# Altium schematic symbol library 6.Chips.SchLib: 209 symbols (part 2 of 3)
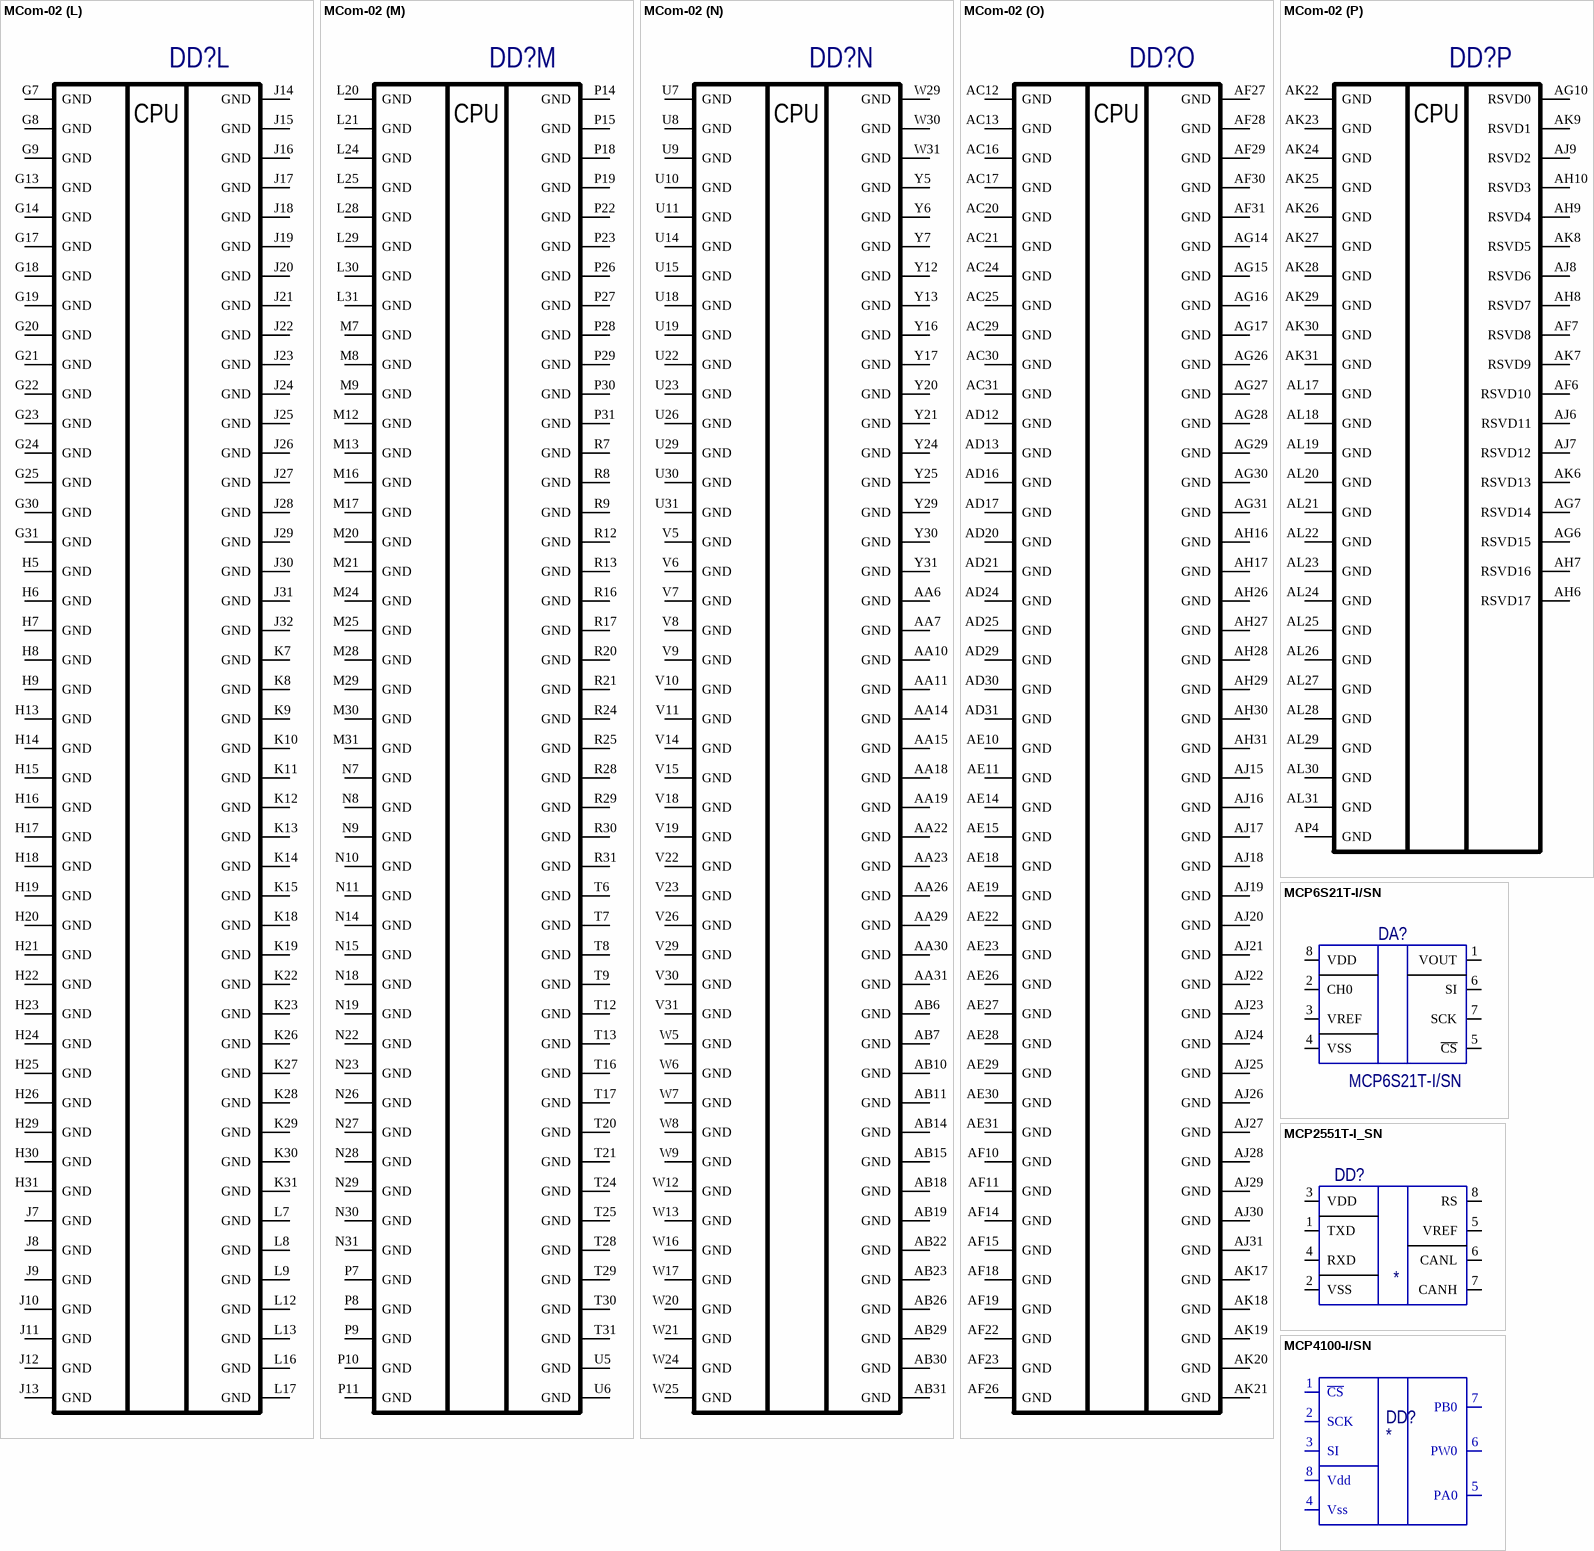
[diagram p20: symbols MCom-02 to MCP4100-I/SN]

## MCom-02
designator DD?, comment MCom-02.1  (value not drawn)
Процессор; Note: Elvees; _Type: IC; _Value: MCom-02.1; Manufacturer: Elvees; ComponentLink1Description: Datasheet; _PartNumber: MCom-02.1
footprint BGA1296(36x36pin_19x19mm)
part A pins: AA32 DDR0_ATO "Byte Low Enable", AA33 DDR0_ODT1 "Byte Low Enable", AA34 DDR0_ODT0 "Byte Low Enable", AA35 DDR0_DTO1 "Byte Low Enable", AA36 DDR0_DTO0 "Byte Low Enable", AB32 DDR0_AD2, AB33 DDR0_RASn "Byte Low Enable", AB34 DDR0_AD10 "Output Enables", AB35 DDR0_WEn "Byte Low Enable", AB36 DDR0_BA2 "Byte Low Enable", AC32 DDR0_AD11 "Write Enable", AC33 DDR0_AD13 "Byte Low Enable", AC34 DDR0_AD12 "Byte High Enable", AC35 DDR0_AD3, AC36 DDR0_AD1, AD32 DDR0_AD14 "Byte Low Enable", AD33 DDR0_AD15 "Byte Low Enable", AD34 DDR0_VREF "Byte Low Enable", AD35 DDR0_CKn "Byte Low Enable", AD36 DDR0_CK "Byte Low Enable", AE32 DDR0_AD5, AE33 DDR0_AD9, AE34 DDR0_AD6, AE35 DDR0_AD7, AE36 DDR0_AD8, AF32 DDR0_CASn "Byte Low Enable", AF33 DDR0_BA1 "Byte Low Enable", AF34 DDR0_AD0, AF35 DDR0_AD4, AF36 DDR0_BA0 "Byte Low Enable", AG32 DDR0_CKE0 "Byte Low Enable", AG33 DDR0_RST "Byte Low Enable", AG34 DDR0_CKE1 "Byte Low Enable", AG35 DDR0_CSn0 "Byte Low Enable", AG36 DDR0_CSn1 "Byte Low Enable", AH32 DDR0_VREF "Byte Low Enable", AH33 DDR0_DQ19, AH34 DDR0_DQ17, AH35 DDR0_DQ21, AH36 DDR0_DQ23, AJ32 DDR0_MDM2 "Byte Low Enable", AJ33 DDR0_DQ16, AJ34 DDR0_DQ18, AJ35 DDR0_DQ22, AJ36 DDR0_DQ20, AK32 DDR0_MDM3 "Byte Low Enable", AK33 DDR0_DQ29, AK34 DDR0_DQ31, AK35 DDR0_DQ27, AK36 DDR0_DQ25, AL33 DDR0_DQ28, AL34 DDR0_DQ30, AL35 DDR0_DQ26, AL36 DDR0_DQ24, AM33 DDR0_DQS3, AM34 DDR0_nDQS3, AM35 DDR0_DQS2, AM36 DDR0_nDQS2, T33 DDR0_DQS1, T34 DDR0_nDQS1, T35 DDR0_DQS0, T36 DDR0_nDQS0, U33 DDR0_DQ3, U34 DDR0_DQ1, U35 DDR0_DQ5, U36 DDR0_DQ7, V32 DDR0_MDM0 "Byte Low Enable", V33 DDR0_DQ0, V34 DDR0_DQ2, V35 DDR0_DQ6, V36 DDR0_DQ4, W32 DDR0_MDM1 "Byte Low Enable", W33 DDR0_DQ13, W34 DDR0_DQ15, W35 DDR0_DQ11, W36 DDR0_DQ9, Y32 DDR0_PZQ "Byte Low Enable", Y33 DDR0_DQ12, Y34 DDR0_DQ14, Y35 DDR0_DQ10, Y36 DDR0_DQ8
part B pins: AM17 DDR1_MDM3 "Byte Low Enable", AM18 DDR1_MDM2 "Byte Low Enable", AM19 DDR1_VREF "Byte Low Enable", AM20 DDR1_CKE0 "Byte Low Enable", AM21 DDR1_CASn "Byte Low Enable", AM22 DDR1_AD5, AM23 DDR1_AD14 "Byte Low Enable", AM24 DDR1_AD11 "Write Enable", AM25 DDR1_AD2, AM26 DDR1_ATO "Byte Low Enable", AM27 DDR1_PZQ "Byte Low Enable", AM28 DDR1_MDM1 "Byte Low Enable", AM29 DDR1_MDM0 "Byte Low Enable", AN15 DDR1_DQS3, AN16 DDR1_DQ28, AN17 DDR1_DQ29, AN18 DDR1_DQ16, AN19 DDR1_DQ19, AN20 DDR1_RST "Byte Low Enable", AN21 DDR1_BA1 "Byte Low Enable", AN22 DDR1_AD9, AN23 DDR1_AD15 "Byte Low Enable", AN24 DDR1_AD13 "Byte Low Enable", AN25 DDR1_RASn "Byte Low Enable", AN26 DDR1_ODT1 "Byte Low Enable", AN27 DDR1_DQ12, AN28 DDR1_DQ13, AN29 DDR1_DQ0, AN30 DDR1_DQ3, AN31 DDR1_DQS1, AP15 DDR1_nDQS3, AP16 DDR1_DQ30, AP17 DDR1_DQ31, AP18 DDR1_DQ18, AP19 DDR1_DQ17, AP20 DDR1_CKE1 "Byte Low Enable", AP21 DDR1_AD0, AP22 DDR1_AD6, AP23 DDR1_VREF "Byte Low Enable", AP24 DDR1_AD12 "Byte High Enable", AP25 DDR1_AD10 "Output Enables", AP26 DDR1_ODT0 "Byte Low Enable", AP27 DDR1_DQ14, AP28 DDR1_DQ15, AP29 DDR1_DQ2, AP30 DDR1_DQ1, AP31 DDR1_nDQS1, AR15 DDR1_DQS2, AR16 DDR1_DQ26, AR17 DDR1_DQ27, AR18 DDR1_DQ22, AR19 DDR1_DQ21, AR20 DDR1_CSn0 "Byte Low Enable", AR21 DDR1_AD4, AR22 DDR1_AD7, AR23 DDR1_CKn "Byte Low Enable", AR24 DDR1_AD3, AR25 DDR1_WEn "Byte Low Enable", AR26 DDR1_DTO1 "Byte Low Enable", AR27 DDR1_DQ10, AR28 DDR1_DQ11, AR29 DDR1_DQ6, AR30 DDR1_DQ5, AR31 DDR1_DQS0, AT15 DDR1_nDQS2, AT16 DDR1_DQ24, AT17 DDR1_DQ25, AT18 DDR1_DQ20, AT19 DDR1_DQ23, AT20 DDR1_CSn1 "Byte Low Enable", AT21 DDR1_BA0 "Byte Low Enable", AT22 DDR1_AD8, AT23 DDR1_CK "Byte Low Enable", AT24 DDR1_AD1, AT25 DDR1_BA2 "Byte Low Enable", AT26 DDR1_DTO0 "Byte Low Enable", AT27 DDR1_DQ8, AT28 DDR1_DQ9, AT29 DDR1_DQ4, AT30 DDR1_DQ7, AT31 DDR1_nDQS0
part C pins: AA27 D0VDD1, AA28 D0VDD1, AB27 D0VDD1, AB28 D0VDD1, AC27 D0VDD0, AC28 D0VDD0, AD27 D0VDD0, AD28 D0VDD0, AG18 D1VDD1, AG19 D1VDD1, AG20 D1VDD0, AG21 D1VDD0, AG22 D1VDD1, AG23 D1VDD1, AG24 D1VDD1, AG25 D1VDD1, AH18 D1VDD1, AH19 D1VDD1, AH20 D1VDD0, AH21 D1VDD0, AH22 D1VDD1, AH23 D1VDD1, AH24 D1VDD1, AH25 D1VDD1, AL32 D0GND, AM13 D1GND, AM14 D1GND, AM15 D1GND, AM16 D1GND, AM30 D1GND, AM31 D1GND, AM32 D1GND, AN13 D1GND, AN14 D1GND, AN32 D1GND, AN33 D0GND, AN34 D0GND, AN35 D0GND, AN36 D0GND, AP13 D1GND, AP14 D1GND, AP32 D1GND, AP33 D0GND, AP34 D0GND, AP35 D0GND, AP36 D0GND, AR14 D1GND, AR32 D1GND, AR33 D1GND, AR34 D1GND, AR35 D1GND, AR36 D1GND, AT14 D1GND, AT32 D1GND, AT33 D1GND, AT34 D1GND, AT35 D1GND, AT36 D1GND, P32 D0GND, P33 D0GND, P34 D0GND, P35 D0GND, P36 D0GND, R32 D0GND, R33 D0GND, R34 D0GND, R35 D0GND, R36 D0GND, T32 D0GND, U27 D0VDD1, U28 D0VDD1, U32 D0GND, V27 D0VDD1, V28 D0VDD1, W27 D0VDD1, W28 D0VDD1, Y27 D0VDD1, Y28 D0VDD1
part D pins: AA1 GMII_TXEN, AA2 GMII_COL, AA3 GMII_MDC, AA4 GMII_TXER, AA5 GMII_CRS, AB1 GMII_RXER, AB2 GMII_TXCLK, AB3 GMII_MD, AB4 GMII_RXDV, AB5 GMII_RXCLK, AC1 SD1_DA3, AC2 SD1_DA2, AC3 SD1_DA1, AC4 SD1_DA0, AC5 VDD_SD1, AD1 SD1_DA7, AD2 SD1_DA6, AD3 SD1_DA5, AD4 SD1_DA4, AD5 GND_SD1, AE1 SD1_18EN, AE2 SD1_CMD, AE3 SD1_CLK, AE4 SD1_DET, AE5 GND_SD1, AF1 SD0_DA3, AF2 SD0_DA2, AF3 SD0_DA1, AF4 SD0_DA0, AF5 VDD_SD0, AG1 SD0_DA7, AG2 SD0_DA6, AG3 SD0_DA5, AG4 SD0_DA4, AG5 GND_SD0, AH1 SD0_18EN, AH2 SD0_CMD, AH3 SD0_CLK, AH4 SD0_DET, AH5 GND_SD0, AJ1 ND_CSN0, AJ2 ND_CSN1, AJ3 ND_DQS, AJ4 ND_WRE, AJ5 ND_RBN0, AK1 ND_CLE, AK2 ND_ALE, AK3 ND_DA8, AK4 ND_DA9, AK5 ND_RBN1, AL1 ND_DA0, AL2 ND_DA1, AL3 ND_DA10, AL4 ND_DA11, AM1 ND_DA2, AM2 ND_DA3, AM3 ND_DA12, AM4 ND_DA13, AN1 ND_DA4, AN2 ND_DA5, AN3 ND_DA14, AN4 ND_DA15, AN5 ND_RDE, AP1 ND_DA6, AP2 ND_DA7, U1 GMII_TXD6, U2 GMII_TXD7, U3 GMII_RXD6, U4 GMII_RXD7, V1 GMII_TXD4, V2 GMII_TXD5, V3 GMII_RXD4, V4 GMII_RXD5, W1 GMII_TXD2, W2 GMII_TXD3, W3 GMII_RXD2, W4 GMII_RXD3, Y1 GMII_TXD0, Y2 GMII_TXD1, Y3 GMII_RXD0, Y4 GMII_RXD1
part E pins: AJ11 OTG_VDD33, AJ12 OTG_VDD33, AJ13 OTG_ID, AK11 OTG_VDD33, AK12 OTG_VDD33, AK13 OTG_VBUS, AL11 OTG_VSSAC, AL12 OTG_VSSA, AM11 OTG_VDD25, AM12 OTG_VSSA, AN12 OTG_DRV, AP12 OTG_TXRT, AR12 OTG_DM, AT12 OTG_DP, E1 SMC_D6, E2 SMC_D7, E3 SMC_D14, E4 SMC_D15, F1 SMC_D4, F2 SMC_D5, F3 SMC_D12, F4 SMC_D13, G1 SMC_D2, G2 SMC_D3, G3 SMC_D10, G4 SMC_D11, H1 SMC_D0, H2 SMC_D1, H3 SMC_D8, H4 SMC_D9, J1 SMC_AD14, J2 SMC_AD15, J3 SMC_AD22, J4 SMC_AD23, J5 VDDPST, J6 VDDPST, K1 SMC_AD12, K2 SMC_AD13, K3 SMC_AD20, K4 SMC_AD21, K5 VDDPST, K6 VDDPST, L1 SMC_AD10, L2 SMC_AD11, L3 SMC_AD18, L4 SMC_AD19, L5 VDDPST, L6 VDDPST, M1 SMC_AD8, M2 SMC_AD9, M3 SMC_AD16, M4 SMC_AD17, M5 SMC_WAIT, M6 VDDPST, N1 SMC_AD6, N2 SMC_AD7, N3 SMC_BLS0, N4 SMC_BLS1, N5 SMC_ADVN, N6 VDDPST, P1 SMC_AD4, P2 SMC_AD5, P3 SMC_BAA, P4 SMC_CRE, P5 SMC_WEN, P6 VDDPST, R1 SMC_AD2, R2 SMC_AD3, R3 SMC_CSN0, R4 SMC_CSN1, R5 SMC_OEN, R6 VDDPST, T1 SMC_AD0, T2 SMC_AD1, T3 SMC_CLK0, T4 SMC_CLK1, T5 SMC_FBCLK
part F pins: A5 UART0_IN/GA18, A6 UART0_RTS/GA21, A8 UART3_IN, A9 I2S_SDO0/GD9, A11 I2C2_SCL/GD25, A24 SW1_DINP, A25 SW1_SINP, A26 SW1_SOUTP, A27 SW1_DOUTP, B5 UART0_OUT/GA19, B6 UART0_CTS/GA20, B8 UART3_OUT, B9 I2S_SDI/GD8, B11 I2C2_SDA/GD24, B24 SW1_DINN, B25 SW1_SINN, B26 SW1_SOUTN, B27 SW1_DOUTN, C8 UART1_IN/GD0, C9 I2S_CLKO/GD7, C11 I2C1_SCL/GD23, C24 SW0_DOUTP, C25 SW0_SOUTP, C26 SW0_SINP, C27 SW0_DINP, D8 UART1_OUT/GD1, D9 TIM1_TGL/GD6, D10 I2S_CLK/GD14, D11 I2C1_SDA/GD22, D24 SW0_DOUTN, D25 SW0_SOUTN, D26 SW0_SINN, D27 SW0_DINN, E7 TIM2_TGL/GA31, E9 UART2_IN/GD4, E10 I2S_WS/GD13, E20 SW0_VDD25, E21 SW0_VSS25, E22 SW0_VDD11, E23 SW0_VSS11, E24 SW1_VDD25, E25 SW1_VSS25, E26 SW1_VDD11, E27 SW1_VSS11, F9 UART2_OUT/GD5, F10 I2S_SDO1/GD10, F20 SW0_VDD25, F21 SW0_VSS25, F22 SW0_VDD11, F23 SW0_VSS11, F24 SW1_VDD25, F25 SW1_VSS25, F26 SW1_VDD11, F27 SW1_VSS11, G10 I2C0_SDA/GA29, G11 UART1_CTS/GD2, G12 I2S_SDO2/GD11, H10 I2C0_SCL/GA30, H11 UART1_RTS/GD3, H12 I2S_SDO3/GD12, K32 MFB1_DA2, K33 MFB1_DA0, K34 MFB1_ACK, K35 MFB1_DA6, K36 MFB1_DA4, L32 MFB1_DA3, L33 MFB1_DA1, L34 MFB1_CLK, L35 MFB1_DA7, L36 MFB1_DA5, M32 MFB0_DA2, M33 MFB0_DA0, M34 MFB0_ACK, M35 MFB0_DA6, M36 MFB0_DA4, N32 MFB0_DA3, N33 MFB0_DA1, N34 MFB0_CLK, N35 MFB0_DA7, N36 MFB0_DA5
part G pins: A1 TRACE_D0/GA0, A2 TRACE_D2/GA2, A3 TRACE_D4/GA4, A4 TRACE_D6/GA6, A7 SPI1_TXD/GA23, A10 SPI0_RXD/GD17, AJ10 TESTEN, AK10 TRST, AK16 RTC_WAKEUP, AL5 XTO_24M, AL10 TESTCLK, AL16 RTC_ISO, AM5 XTI_24M, AM10 TCK, AN6 TMS, AP3 efuse_VDDA, AP5 NSYS_OFF, AP6 TDI, AR1 WIRQ1, AR2 BOOT2, AR3 BOOT0, AR4 NRST_PON, AR5 NVMODE0, AR6 TDO, AR7 JMODE1, AR13 XT0_32K, AT1 WIRQ0, AT2 BOOT1, AT3 NRST_WRM, AT4 NVMODE1, AT5 JMODE0, AT6 CLKOUT, AT7 NBSRST, AT13 XTI_32K, B1 TRACE_D1/GA1, B2 TRACE_D3/GA3, B3 TRACE_D5/GA5, B4 TRACE_D7/GA7, B7 SPI1_RXD/GA24, B10 SPI0_TXD/GD16, C1 TRACE_D8/GA8, C2 TRACE_D10/GA10, C3 TRACE_D12/GA12, C4 TRACE_D14/GA14, C5 TRACE_TCL/GA16, C6 SPI1_CLK/GA22, C7 SPI1_SSN0/GA25, C10 SPI0_CLK/GD15, C12 PWM_TU0/GD30, C13 GPS_I0, C14 GPS_Q0, C15 GLN1_I0, C16 GLN1_Q0, D1 TRACE_D9/GA9, D2 TRACE_D11/GA11, D3 TRACE_D13/GA13, D4 TRACE_D15/GA15, D5 TRACE_CLK/GA17, D7 SPI1_SSN1/GA26, D12 PWM_TU1/GD31, D13 MCC_PPS, D14 GPS_I1, D15 GPS_Q1, D16 GLN1_I1, E8 SPI1_SSN2/GA27, E11 SPI0_SSN3/GD21, E12 PWM_B0/GD28, E13 SPI0_SSN1/GD19, E14 PWM_A0/GD26, E17 GLN2_I0, E18 GLN2_Q0, E19 MCC_CLKIN, F8 SPI1_SSN3/GA28, F11 SPI0_SSN2/GD20, F12 PWM_B1/GD29, F13 SPI0_SSN0/GD18, F14 PWM_A1/GD27, F17 GLN1_Q1, F18 GLN2_I1, F19 GLN2_Q1
part H pins: A12 VN_VDI0/GC0, A13 VN_VDI2/GC2, A14 VN_VDI4/GC4, A15 VN_VDI6/GC6, A16 VN_VDI8/GC8, A17 VN_VDI10/GC10, A18 VN_VDI12/GC12, A19 VN_VDI14/GC14, A20 VN_FSYNC0, A21 VN_RSTO0/GC30, A23 VN_CLKO0, A28 VP_VCLK, A29 VP_VDO2, A30 VP_VDO7, A31 VP_VDO11, A32 VP_VDO15, A33 VP_VDO17, A34 VP_VDO19, A35 VP_VDO21, A36 VP_VDO23, B12 VN_VDI1/GC1, B13 VN_VDI3/GC3, B14 VN_VDI5/GC5, B15 VN_VDI7/GC7, B16 VN_VDI9/GC9, B17 VN_VDI11/GC11, B18 VN_VDI13/GC13, B19 VN_VDI15/GC15, B20 VN_FSYNC1, B21 VN_RSTO1/GC31, B23 VN_CLKO1, B28 VP_VSYNC, B29 VP_VDO3, B30 VP_VDO6, B31 VP_VDO10, B32 VP_VDO14, B33 VP_VDO16, B34 VP_VDO18, B35 VP_VDO20, B36 VP_VDO22, C17 VN_VDI16/GC16, C18 VN_VDI18/GC18, C19 VN_VDI20/GC20, C20 VN_VDI22/GC22, C21 VN_VDI24/GC24, C22 VN_VDI26/GC26, C23 VN_VDI28/GC28, C28 VP_HSYNC, C29 VP_VDO0, C30 VP_VDO4, C31 VP_VDO9, C32 VP_VDO13, C33 DSI_DN0, C34 DSI_DP0, C35 CSI_DN0, C36 CSI_DP0, D17 VN_VDI17/GC17, D18 VN_VDI19/GC19, D19 VN_VDI21/GC21, D20 VN_VDI23/GC23, D21 VN_VDI25/GC25, D22 VN_VDI27/GC27, D23 VN_VDI29/GC29, D28 VP_VDEN, D29 VP_VDO1, D30 VP_VDO5, D31 VP_VDO8, D32 VP_VDO12, D33 DSI_DN1, D34 DSI_DP1, D35 CSI_DN1, D36 CSI_DP1, E33 DSI_DN2, E34 DSI_DP2, E35 CSI_DN2, E36 CSI_DP2, F33 DSI_DN3, F34 DSI_DP3, F35 CSI_DN3, F36 CSI_DP3, G33 DSI_CLKP, G34 DSI_CLKN, G35 CSI_CLKP, G36 CSI_CLKN
part I pins: AA8 VDD_PLL2, AA9 GND_PLL2, AB8 VDD_PLL3, AB9 GND_PLL3, AC6 ALIVE_VDDPST, AC7 ALIVE_VDDPST, AC8 VDD_PLL4, AC9 GND_PLL4, AD6 ALIVE_VDD, AD7 ALIVE_VDD, AD8 VDD_PLL5, AD9 GND_PLL5, AE6 ALIVE_VDD, AE7 ALIVE_VDD, AE8 VDD_PLL6, AE9 GND_PLL6, AF8 VDD_PLL7, AF9 GND_PLL7, AG8 VDD_PLL8, AG9 GND_PLL8, AJ14 RTC_VDDPST, AK14 RTC_VDDPST, AK15 RTC_VDD, AL6 DFTRAMBP, AL7 DFTWINTEST, AL8 DFTWEXTEST, AL9 TESTMODE_PLL, AL13 RTC_GNDAC, AL14 RTC_VDDAC, AL15 RTC_VDD, AM6 DFTCPURSTDIS, AM7 DFTCOMPBP, AM8 DFTATEATCLKVSOC, AM9 TESTSE, AN7 DFTCLKBP, AN8 DFTMAXCOMPMD, AN9 DFTWRPCLK, AN10 TESTSI_PLL, AN11 TESTSE_PLL, AP7 DFTRSTDIS, AP8 DFTATSPEEDEN, AP9 DFTSCANMD, AP10 TESTSO_PLL, AP11 TESTRST, AR8 DFTATECLK, AR9 DFTATEATCLK, AR10 DFTSE, AR11 TESTMODE_SC, AT8 DFTATEPCLKVSOC, AT9 DFTWSE, AT10 DFTTESTMD, AT11 TESTMODE, E30 DSI_GND, E31 DSI_GND, E32 DSI_VDD, F30 DSI_GND, F31 DSI_GND, F32 DSI_VDD, G32 DSI_VDD, H32 DSI_VDD, H33 CSI_GND, H34 CSI_GND, H35 CSI_VDD, H36 CSI_VDD, J33 CSI_GND, J34 CSI_GND, J35 CSI_VDD, J36 CSI_VDD, Y8 VDD_PLL1, Y9 GND_PLL1
part J pins: AG11 VDDPST, AG12 VDDPST, AH11 VDDPST, AH12 VDDPST, AH13 VDDPST, AH14 VDDPST, AH15 VDDPST, E15 VDDPST, E16 VDDPST, E28 VDDPST, E29 VDDPST, F15 VDDPST, F16 VDDPST, F28 VDDPST, F29 VDDPST, G15 VDDPST, G16 VDDPST, G26 VDDPST, G27 VDDPST, G28 VDDPST, G29 VDDPST, H27 VDDPST, H28 VDDPST, K16 VDD_1V1, K17 VDD_1V1, K20 VDD_1V1, K21 VDD_1V1, K24 VDD_1V1, K25 VDD_1V1, L10 VDD_1V1, L11 VDD_1V1, L14 VDD_1V1, L15 VDD_1V1, L18 VDD_1V1, L19 VDD_1V1, L22 VDD_1V1, L23 VDD_1V1, L26 VDD_1V1, L27 VDD_1V1, M10 VDD_1V1, M11 VDD_1V1, M14 VDD_1V1, M15 VDD_1V1, M18 VDD_1V1, M19 VDD_1V1, M22 VDD_1V1, M23 VDD_1V1, M26 VDD_1V1, M27 VDD_1V1, N12 VDD_1V1, N13 VDD_1V1, N16 VDD_1V1, N17 VDD_1V1, N20 VDD_1V1, N21 VDD_1V1, N24 VDD_1V1, N25 VDD_1V1, P12 VDD_1V1, P13 VDD_1V1, P16 VDD_1V1, P17 VDD_1V1, P20 VDD_1V1, P21 VDD_1V1, P24 VDD_1V1, P25 VDD_1V1, R10 VDD_1V1, R11 VDD_1V1, R14 VDD_1V1, R15 VDD_1V1, R18 VDD_1V1, R19 VDD_1V1, R22 VDD_1V1, R23 VDD_1V1, R26 VDD_1V1, R27 VDD_1V1, T10 VDD_1V1, T11 VDD_1V1, T14 VDD_1V1, T15 VDD_1V1, T18 VDD_1V1, T19 VDD_1V1, T22 VDD_1V1, T23 VDD_1V1, T26 VDD_1V1, T27 VDD_1V1, U12 VDD_1V1, U13 VDD_1V1, U16 VDD_1V1, U17 VDD_1V1, U20 VDD_1V1
part K pins: A22 GND, AA12 VDD_1V1, AA13 VDD_1V1, AA16 VDD_1V1, AA17 VDD_1V1, AA20 VDD_1V1, AA21 VDD_1V1, AA24 VDD_1V1, AA25 VDD_1V1, AB12 VDD_1V1, AB13 VDD_1V1, AB16 VDD_1V1, AB17 VDD_1V1, AB20 VDD_1V1, AB21 VDD_1V1, AB24 VDD_1V1, AB25 VDD_1V1, AC10 VDD_1V1, AC11 VDD_1V1, AC14 VDD_1V1, AC15 VDD_1V1, AC18 VDD_1V1, AC19 VDD_1V1, AC22 VDD_1V1, AC23 VDD_1V1, AC26 VDD_1V1, AD10 VDD_1V1, AD11 VDD_1V1, AD14 VDD_1V1, AD15 VDD_1V1, AD18 VDD_1V1, AD19 VDD_1V1, AD22 VDD_1V1, AD23 VDD_1V1, AD26 VDD_1V1, AE12 VDD_1V1, AE13 VDD_1V1, AE16 VDD_1V1, AE17 VDD_1V1, AE20 VDD_1V1, AE21 VDD_1V1, AE24 VDD_1V1, AE25 VDD_1V1, AF12 VDD_1V1, AF13 VDD_1V1, AF16 VDD_1V1, AF17 VDD_1V1, AF20 VDD_1V1, AF21 VDD_1V1, AF24 VDD_1V1, AF25 VDD_1V1, AG13 VDD_1V1, B22 GND, D6 GND, E5 GND, E6 GND, F5 GND, F6 GND, F7 GND, G5 GND, G6 GND, U21 VDD_1V1, U24 VDD_1V1, U25 VDD_1V1, V12 VDD_1V1, V13 VDD_1V1, V16 VDD_1V1, V17 VDD_1V1, V20 VDD_1V1, V21 VDD_1V1, V24 VDD_1V1, V25 VDD_1V1, W10 VDD_1V1, W11 VDD_1V1, W14 VDD_1V1, W15 VDD_1V1, W18 VDD_1V1, W19 VDD_1V1, W22 VDD_1V1, W23 VDD_1V1, W26 VDD_1V1, Y10 VDD_1V1, Y11 VDD_1V1, Y14 VDD_1V1, Y15 VDD_1V1, Y18 VDD_1V1, Y19 VDD_1V1, Y22 VDD_1V1, Y23 VDD_1V1, Y26 VDD_1V1
part L pins: G7 GND, G8 GND, G9 GND, G13 GND, G14 GND, G17 GND, G18 GND, G19 GND, G20 GND, G21 GND, G22 GND, G23 GND, G24 GND, G25 GND, G30 GND, G31 GND, H5 GND, H6 GND, H7 GND, H8 GND, H9 GND, H13 GND, H14 GND, H15 GND, H16 GND, H17 GND, H18 GND, H19 GND, H20 GND, H21 GND, H22 GND, H23 GND, H24 GND, H25 GND, H26 GND, H29 GND, H30 GND, H31 GND, J7 GND, J8 GND, J9 GND, J10 GND, J11 GND, J12 GND, J13 GND, J14 GND, J15 GND, J16 GND, J17 GND, J18 GND, J19 GND, J20 GND, J21 GND, J22 GND, J23 GND, J24 GND, J25 GND, J26 GND, J27 GND, J28 GND, J29 GND, J30 GND, J31 GND, J32 GND, K7 GND, K8 GND, K9 GND, K10 GND, K11 GND, K12 GND, K13 GND, K14 GND, K15 GND, K18 GND, K19 GND, K22 GND, K23 GND, K26 GND, K27 GND, K28 GND, K29 GND, K30 GND, K31 GND, L7 GND, L8 GND, L9 GND, L12 GND, L13 GND, L16 GND, L17 GND
part M pins: L20 GND, L21 GND, L24 GND, L25 GND, L28 GND, L29 GND, L30 GND, L31 GND, M7 GND, M8 GND, M9 GND, M12 GND, M13 GND, M16 GND, M17 GND, M20 GND, M21 GND, M24 GND, M25 GND, M28 GND, M29 GND, M30 GND, M31 GND, N7 GND, N8 GND, N9 GND, N10 GND, N11 GND, N14 GND, N15 GND, N18 GND, N19 GND, N22 GND, N23 GND, N26 GND, N27 GND, N28 GND, N29 GND, N30 GND, N31 GND, P7 GND, P8 GND, P9 GND, P10 GND, P11 GND, P14 GND, P15 GND, P18 GND, P19 GND, P22 GND, P23 GND, P26 GND, P27 GND, P28 GND, P29 GND, P30 GND, P31 GND, R7 GND, R8 GND, R9 GND, R12 GND, R13 GND, R16 GND, R17 GND, R20 GND, R21 GND, R24 GND, R25 GND, R28 GND, R29 GND, R30 GND, R31 GND, T6 GND, T7 GND, T8 GND, T9 GND, T12 GND, T13 GND, T16 GND, T17 GND, T20 GND, T21 GND, T24 GND, T25 GND, T28 GND, T29 GND, T30 GND, T31 GND, U5 GND, U6 GND
part N pins: AA6 GND, AA7 GND, AA10 GND, AA11 GND, AA14 GND, AA15 GND, AA18 GND, AA19 GND, AA22 GND, AA23 GND, AA26 GND, AA29 GND, AA30 GND, AA31 GND, AB6 GND, AB7 GND, AB10 GND, AB11 GND, AB14 GND, AB15 GND, AB18 GND, AB19 GND, AB22 GND, AB23 GND, AB26 GND, AB29 GND, AB30 GND, AB31 GND, U7 GND, U8 GND, U9 GND, U10 GND, U11 GND, U14 GND, U15 GND, U18 GND, U19 GND, U22 GND, U23 GND, U26 GND, U29 GND, U30 GND, U31 GND, V5 GND, V6 GND, V7 GND, V8 GND, V9 GND, V10 GND, V11 GND, V14 GND, V15 GND, V18 GND, V19 GND, V22 GND, V23 GND, V26 GND, V29 GND, V30 GND, V31 GND, W5 GND, W6 GND, W7 GND, W8 GND, W9 GND, W12 GND, W13 GND, W16 GND, W17 GND, W20 GND, W21 GND, W24 GND, W25 GND, W29 GND, W30 GND, W31 GND, Y5 GND, Y6 GND, Y7 GND, Y12 GND, Y13 GND, Y16 GND, Y17 GND, Y20 GND, Y21 GND, Y24 GND, Y25 GND, Y29 GND, Y30 GND, Y31 GND
part O pins: AC12 GND, AC13 GND, AC16 GND, AC17 GND, AC20 GND, AC21 GND, AC24 GND, AC25 GND, AC29 GND, AC30 GND, AC31 GND, AD12 GND, AD13 GND, AD16 GND, AD17 GND, AD20 GND, AD21 GND, AD24 GND, AD25 GND, AD29 GND, AD30 GND, AD31 GND, AE10 GND, AE11 GND, AE14 GND, AE15 GND, AE18 GND, AE19 GND, AE22 GND, AE23 GND, AE26 GND, AE27 GND, AE28 GND, AE29 GND, AE30 GND, AE31 GND, AF10 GND, AF11 GND, AF14 GND, AF15 GND, AF18 GND, AF19 GND, AF22 GND, AF23 GND, AF26 GND, AF27 GND, AF28 GND, AF29 GND, AF30 GND, AF31 GND, AG14 GND, AG15 GND, AG16 GND, AG17 GND, AG26 GND, AG27 GND, AG28 GND, AG29 GND, AG30 GND, AG31 GND, AH16 GND, AH17 GND, AH26 GND, AH27 GND, AH28 GND, AH29 GND, AH30 GND, AH31 GND, AJ15 GND, AJ16 GND, AJ17 GND, AJ18 GND, AJ19 GND, AJ20 GND, AJ21 GND, AJ22 GND, AJ23 GND, AJ24 GND, AJ25 GND, AJ26 GND, AJ27 GND, AJ28 GND, AJ29 GND, AJ30 GND, AJ31 GND, AK17 GND, AK18 GND, AK19 GND, AK20 GND, AK21 GND
part P pins: AF6 RSVD10, AF7 RSVD8, AG6 RSVD15, AG7 RSVD14, AG10 RSVD0, AH6 RSVD17, AH7 RSVD16, AH8 RSVD7, AH9 RSVD4, AH10 RSVD3, AJ6 RSVD11, AJ7 RSVD12, AJ8 RSVD6, AJ9 RSVD2, AK6 RSVD13, AK7 RSVD9, AK8 RSVD5, AK9 RSVD1, AK22 GND, AK23 GND, AK24 GND, AK25 GND, AK26 GND, AK27 GND, AK28 GND, AK29 GND, AK30 GND, AK31 GND, AL17 GND, AL18 GND, AL19 GND, AL20 GND, AL21 GND, AL22 GND, AL23 GND, AL24 GND, AL25 GND, AL26 GND, AL27 GND, AL28 GND, AL29 GND, AL30 GND, AL31 GND, AP4 GND
part A text: CPU
part B text: CPU
part C text: CPU
part D text: CPU
part E text: CPU
part F text: CPU
part G text: CPU
part H text: CPU
part I text: CPU
part J text: CPU
part K text: CPU
part L text: CPU
part M text: CPU
part N text: CPU
part O text: CPU
part P text: CPU

## MCP6S21T-I/SN
designator DA?
One Channel PGA, / SOIC package, Single-Ended, Rail-to-Rail I/O
footprint SOIC127P600X175-8N
pins: 1 VOUT, 2 CH0, 3 VREF, 4 VSS, 5 ~{CS}, 6 SI, 7 SCK, 8 VDD

## MCP2551T-I_SN
designator DD?
footprint SOIC127P600X175-8N
pins: 1 TXD, 2 VSS, 3 VDD, 4 RXD, 5 VREF, 6 CANL, 7 CANH, 8 RS

## MCP4100-I/SN
designator DD?
HelpURL: https://www.terraelectronica.ru/pdf/show?pdf_file=http%253A%252F%252Fwww.farnell.com%252Fdatasheets%252F12247.pdf
footprint SOIC8 (SOIC, 8-Leads, Body 4,90x3,90mm, Pitch 1,27mm, IPC Medium Density)
pins: 1 ~{CS}, 2 SCK, 3 SI, 4 Vss, 5 PA0, 6 PW0, 7 PB0, 8 Vdd

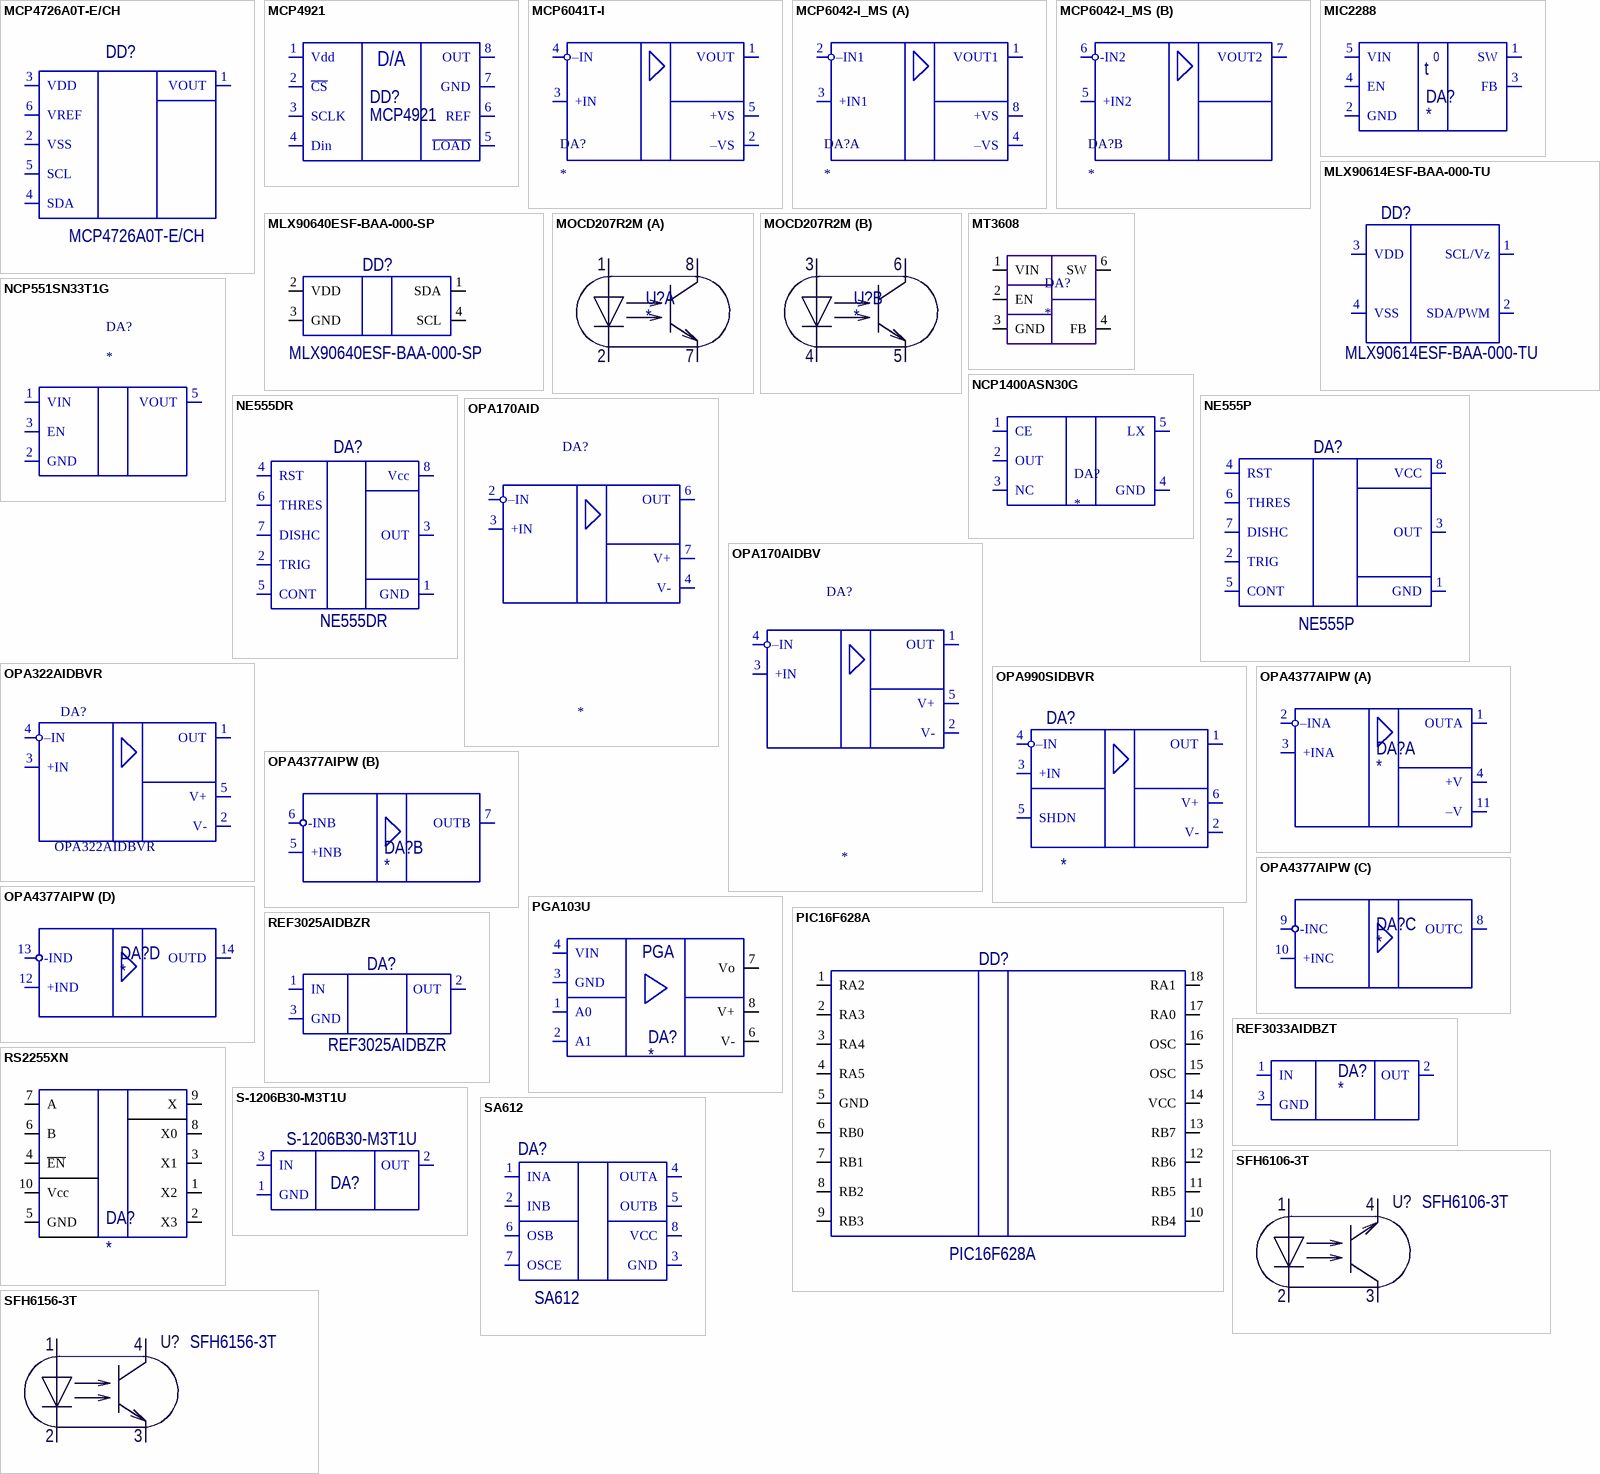
[diagram p12: symbols MCP4726A0T-E/CH to SFH6156-3T]

## MCP4726A0T-E/CH
designator DD?
12-бит ЦАП с EEPROM и I2C; Manufacturer_Name: Microchip; Datasheet Link: https://datasheet.datasheetarchive.com/originals/distributors/Datasheets-DGA17/911550.pdf; Height: 1.45mm; Manufacturer_Part_Number: MCP4726A0T-E/CH; Mouser Part Number: 579-MCP4726A0TECH; Mouser Price/Stock: https://www.mouser.co.uk/ProductDetail/Microchip-Technology-Atmel/MCP4726A0T-E-CH?qs=ggQiQSXuoRUfw4Repi%252B5rQ%3D%3D; Arrow Part Number: MCP4726A0T-E/CH; Arrow Price/Stock: https://www.arrow.com/en/products/mcp4726a0t-ech/microchip-technology?region=nac
footprint SOT-23-6 (SOT23, 6-Leads, Body 1,60x1,60mm, Pitch 0,50mm, IPC Medium Density)
pins: 1 VOUT, 2 VSS, 3 VDD, 4 SDA, 5 SCL, 6 VREF

## MCP4921
designator DD?
footprint SO-8 (SOIC, 8-Leads, Body 4,90x3,90mm, Pitch 1,27mm, IPC Medium Density)
pins: 1 Vdd, 2 ~{СS}, 3 SCLK, 4 Din, 5 ~{LOAD}, 6 REF, 7 GND, 8 OUT
text: D/A

## MCP6041T-I
designator DA?
600 nA, Rail-to-Rail Input/Output Op Amps; Manufacturer_Name: Microchip; Manufacturer_Part_Number: MCP6042-I/MS; Datasheet Link: http://ww1.microchip.com/downloads/en/DeviceDoc/21669D.pdf; Height: 1.1mm; Mouser Part Number: 579-MCP6042-I/MS; Mouser Price/Stock: https://www.mouser.co.uk/ProductDetail/Microchip-Technology/MCP6042-I-MS?qs=cQYLKLPzRJkRgvXg7pIf2A%3D%3D; Arrow Part Number: MCP6042-I/MS; Arrow Price/Stock: https://www.arrow.com/en/products/mcp6042-ims/microchip-technology
footprint SOT-23-5 (SOT23, 5-Leads, Body 2,90x2,80mm, Pitch 0,95mm, IPC Medium Density)
pins: 1 VOUT, 2 –VS, 3 +IN, 4 –IN, 5 +VS

## MCP6042-I_MS
designator DA?
600 nA, Rail-to-Rail Input/Output Op Amps; Manufacturer_Name: Microchip; Manufacturer_Part_Number: MCP6042-I/MS; Datasheet Link: http://ww1.microchip.com/downloads/en/DeviceDoc/21669D.pdf; Height: 1.1mm; Mouser Part Number: 579-MCP6042-I/MS; Mouser Price/Stock: https://www.mouser.co.uk/ProductDetail/Microchip-Technology/MCP6042-I-MS?qs=cQYLKLPzRJkRgvXg7pIf2A%3D%3D; Arrow Part Number: MCP6042-I/MS; Arrow Price/Stock: https://www.arrow.com/en/products/mcp6042-ims/microchip-technology
footprint SOP65P490X110-8N
part A pins: 1 VOUT1, 2 –IN1, 3 +IN1, 4 –VS, 8 +VS
part B pins: 5 +IN2, 6 -IN2, 7 VOUT2

## MIC2288
designator DA?
1A 1.2MHz PWM Boost Converter; HelpURL: http://www.analog.com/media/en/technical-documentation/data-sheets/adt7301.pdf
footprint SOT-23-5 (SOT23, 5-Leads, Body 2,90x2,80mm, Pitch 0,95mm, IPC Medium Density)
pins: 1 SW, 2 GND, 3 FB, 4 EN, 5 VIN
text: 0; t

## MLX90614ESF-BAA-000-TU
designator DD?
Датчик температуры ИК, Uпит=3B, однозонный, стандарт (без вторичной оптики)
footprint to-39 (4-pin)
footprint MLX90614ESF-BAA-000-TU
pins: 1 SCL/Vz, 2 SDA/PWM, 3 VDD, 4 VSS

## MLX90640ESF-BAA-000-SP
designator DD?
Board Mount Temperature Sensors 32x24 thermal array, 110deg FOV; Manufacturer_Name: Melexis; Datasheet Link: https://componentsearchengine.com/Datasheets/1/MLX90640ESF-BAA-000-SP.pdf; Height: 6mm; Manufacturer_Part_Number: MLX90640ESF-BAA-000-SP; Mouser Part Number: 482-MLX90640ESFBAASP; Mouser Price/Stock: https://www.mouser.co.uk/ProductDetail/Melexis/MLX90640ESF-BAA-000-SP?qs=y6ZabgHbY%252Bz1Luyoz5kAtA%3D%3D; Arrow Part Number: MLX90640ESF-BAA-000-SP; Arrow Price/Stock: https://www.arrow.com/en/products/mlx90640esf-baa-000-sp/melexis?region=nac
footprint MLX90640ESFBAA000TU
pins: 1 SDA, 2 VDD, 3 GND, 4 SCL

## MOCD207R2M
designator U?
Оптопара двухканальная с транзисторным выходом
footprint SO-8-HCPL
part A pins: 1, 2, 7, 8
part B pins: 3, 4, 5, 6

## MT3608
designator DA?
footprint SOT-23-6 (SOT23, 6-Leads, Body 1,60x1,60mm, Pitch 0,50mm, IPC Medium Density)
pins: 1 VIN, 2 EN, 3 GND, 4 FB, 6 SW

## NCP551SN33T1G
designator DA?
150 mA CMOS Low Iq / Low-Dropout Voltage / Regulator; Manufacturer_Name: onsemi; Manufacturer_Part_Number: NCP551SN33T1G; Datasheet Link: http://www.onsemi.com/pub/Collateral/NCP551-D.PDF; Height: 1.1mm; Mouser Part Number: 863-NCP551SN33T1G; Mouser Price/Stock: https://www.mouser.co.uk/ProductDetail/onsemi/NCP551SN33T1G?qs=%2FugrpAKHX8oj6EQFF%2FJDgw%3D%3D; Arrow Part Number: NCP551SN33T1G; Arrow Price/Stock: https://www.arrow.com/en/products/ncp551sn33t1g/on-semiconductor?region=nac
footprint SOT-23-5 (SOT23, 5-Leads, Body 2,90x2,80mm, Pitch 0,95mm, IPC Medium Density)
pins: 1 VIN, 2 GND, 3 EN, 5 VOUT

## NCP1400ASN30G
designator DA?
footprint SOT-23-5 (SOT23, 5-Leads, Body 2,90x2,80mm, Pitch 0,95mm, IPC Medium Density)
pins: 1 CE, 2 OUT, 3 NC, 4 GND, 5 LX

## NE555DR
designator DA?
footprint SO-8 (SOIC, 8-Leads, Body 4,90x3,90mm, Pitch 1,27mm, IPC Medium Density)
pins: 1 GND, 2 TRIG, 3 OUT, 4 RST, 5 CONT, 6 THRES, 7 DISHC, 8 Vcc

## NE555P
designator DA?
footprint DIP8
pins: 1 GND, 2 TRIG, 3 OUT, 4 RST, 5 CONT, 6 THRES, 7 DISHC, 8 VCC

## OPA170AID
designator DA?
Single-Supply, Low-Power / OPERATIONAL AMPLIFIERS; Manufacturer_Name: Texas Instruments; Manufacturer_Part_Number: OPA170AID; Datasheet Link: http://www.ti.com/lit/gpn/opa170; Height: 1.75mm; Mouser Part Number: 595-OPA170AID; Mouser Price/Stock: https://www.mouser.co.uk/ProductDetail/Texas-Instruments/OPA170AID?qs=tEz3BkPb1rxNsD9IPN6ROA%3D%3D; Arrow Part Number: OPA170AID; Arrow Price/Stock: https://www.arrow.com/en/products/opa170aid/texas-instruments
footprint so-8 (SOIC, 8-Leads, Body 4,90x3,90mm, Pitch 1,27mm, IPC Medium Density)
pins: 2 –IN, 3 +IN, 4 V-, 6 OUT, 7 V+

## OPA170AIDBV
designator DA?
Single-Supply, Low-Power / OPERATIONAL AMPLIFIERS; Manufacturer_Name: Texas Instruments; Manufacturer_Part_Number: OPA170AID; Datasheet Link: http://www.ti.com/lit/gpn/opa170; Height: 1.75mm; Mouser Part Number: 595-OPA170AID; Mouser Price/Stock: https://www.mouser.co.uk/ProductDetail/Texas-Instruments/OPA170AID?qs=tEz3BkPb1rxNsD9IPN6ROA%3D%3D; Arrow Part Number: OPA170AID; Arrow Price/Stock: https://www.arrow.com/en/products/opa170aid/texas-instruments
footprint sot-23-5 (SOT23, 5-Leads, Body 2,90x2,80mm, Pitch 0,95mm, IPC Medium Density)
pins: 1 OUT, 2 V-, 3 +IN, 4 –IN, 5 V+

## OPA322AIDBVR
designator DA?
Операционный усилитель автобаланс 20МГц; Manufacturer_Name: Texas Instruments; Datasheet Link: http://www.ti.com/lit/gpn/opa322; Height: 1.45mm; Manufacturer_Part_Number: OPA322AIDBVR; Mouser Part Number: 595-OPA322AIDBVR; Mouser Price/Stock: https://www.mouser.co.uk/ProductDetail/Texas-Instruments/OPA322AIDBVR?qs=Gia6%252BsTQdYOijwIgbb0dDg%3D%3D; Arrow Part Number: OPA322AIDBVR; Arrow Price/Stock: https://www.arrow.com/en/products/opa322aidbvr/texas-instruments
footprint SOT23-5L (*)
pins: 1 OUT, 2 V-, 3 +IN, 4 –IN, 5 V+

## OPA990SIDBVR
designator DA?
Single, 40-V, 1.1-MHz, low-power operational amplifier
footprint sot-23-6 (SOT23, 6-Leads, Body 1,60x1,60mm, Pitch 0,50mm, IPC Medium Density)
pins: 1 OUT, 2 V-, 3 +IN, 4 –IN, 5 SHDN, 6 V+

## OPA4377AIPW
designator DA?
footprint tssop-14 (TSOP, 14-Leads, Body 5,00x4,40mm, Pitch 0,65mm, IPC Medium Density)
part A pins: 1 OUTA, 2 –INA, 3 +INA, 4 +V, 11 –V
part B pins: 5 +INB, 6 -INB, 7 OUTB
part C pins: 8 OUTC, 9 -INC, 10 +INC
part D pins: 12 +IND, 13 -IND, 14 OUTD

## PGA103U
designator DA?
footprint SO-8 (SOIC, 8-Leads, Body 4,90x3,90mm, Pitch 1,27mm, IPC Medium Density)
pins: 1 A0, 2 A1, 3 GND, 4 VIN, 6 V-, 7 Vo, 8 V+
text: PGA

## PIC16F628A
designator DD?
Manufacturer Part Number: TB6600HG(O); Manufacturer: Toshiba; Number Of Outputs: 4; Output Current: 4.5A; Switching Frequency: 200kHz; Max Power Dissipation: 3.2W; Motor Type: Stepper; Nominal Supply Current: 1.8-4.2mA; Standoff Height: 2.67mm; Max Supply Voltage: 42V; Min Supply Voltage: 8V; Device Class L1: Integrated Circuits (ICs); Digikey Description: IC MTR DRVR BIPOLAR 8-42V 25HZIP; ComponentLink2Description: Datasheet; Package: HZIP25-P-1.00F; RoHS: TRUE; Temperature Range Low: -30°C; Device Class L2: Power Management ICs; ComponentLink2URL: https://toshiba.semicon-storage.com/info/docget.jsp?did=14683&prodName=TB6600HG; Category: IC; Octopart: https://octopart.com/tb6600hg%28o%29-toshiba-24612481; Temperature Range High: +85°C; Temperature: -30°C to +85°C; Height: 19.87mm; Mouser Description: Motor / Motion / Ignition Controllers & Drivers 2-phase stepping motor Drvr 50V; Automotive: No; Lead Free: Yes; Device Class L3: Motor Drivers; Manufacturer 1: Toshiba; Manufacturer Part Number 1: TB6600HG(O)
footprint DIP18
pins: 1 RA2, 2 RA3, 3 RA4, 4 RA5, 5 GND, 6 RB0, 7 RB1, 8 RB2, 9 RB3, 10 RB4, 11 RB5, 12 RB6, 13 RB7, 14 VCC, 15 OSC, 16 OSC, 17 RA0, 18 RA1

## REF3025AIDBZR
designator DA?
HelpURL: https://static.chipdip.ru/lib/551/DOC001551555.pdf
footprint SOT23 (SOT23, 3-Leads, Body 2,90x2,45mm, Pitch 0,95mm, IPC Medium Density)
pins: 1 IN, 2 OUT, 3 GND

## REF3033AIDBZT
designator DA?
HelpURL: https://static.chipdip.ru/lib/551/DOC001551555.pdf
footprint SOT23 (SOT23, 3-Leads, Body 2,90x2,45mm, Pitch 0,95mm, IPC Medium Density)
pins: 1 IN, 2 OUT, 3 GND

## RS2255XN
designator DA?
CMOS 4-Channel Analog Multiplexer/Demultiplexer
footprint MSOP-10 (TSSOP, 10-Leads, Body 3,00x3,00mm, Pitch 0,50mm, IPC Medium Density)
pins: 1 X2, 2 X3, 3 X1, 4 ~{EN}, 5 GND, 6 B, 7 A, 8 X0, 9 X, 10 Vcc

## S-1206B30-M3T1U
designator DA?
Стабилизатор напряжения +3В 250мА
footprint SOT23 (SOT23, 3-Leads, Body 2,90x2,45mm, Pitch 0,95mm, IPC Medium Density)
pins: 1 GND, 2 OUT, 3 IN

## SA612
designator DA?
footprint SO-8 (SOIC, 8-Leads, Body 4,90x3,90mm, Pitch 1,27mm, IPC Medium Density)
pins: 1 INA, 2 INB, 3 GND, 4 OUTA, 5 OUTB, 6 OSB, 7 OSCE, 8 VCC

## SFH6106-3T
designator U?
Оптопара транзисторная [SMD-4]
footprint SMD-4
pins: 1, 2, 3, 4

## SFH6156-3T
designator U?
Оптопара транзисторная [SMD-4]
footprint SMD-4
pins: 1, 2, 3, 4

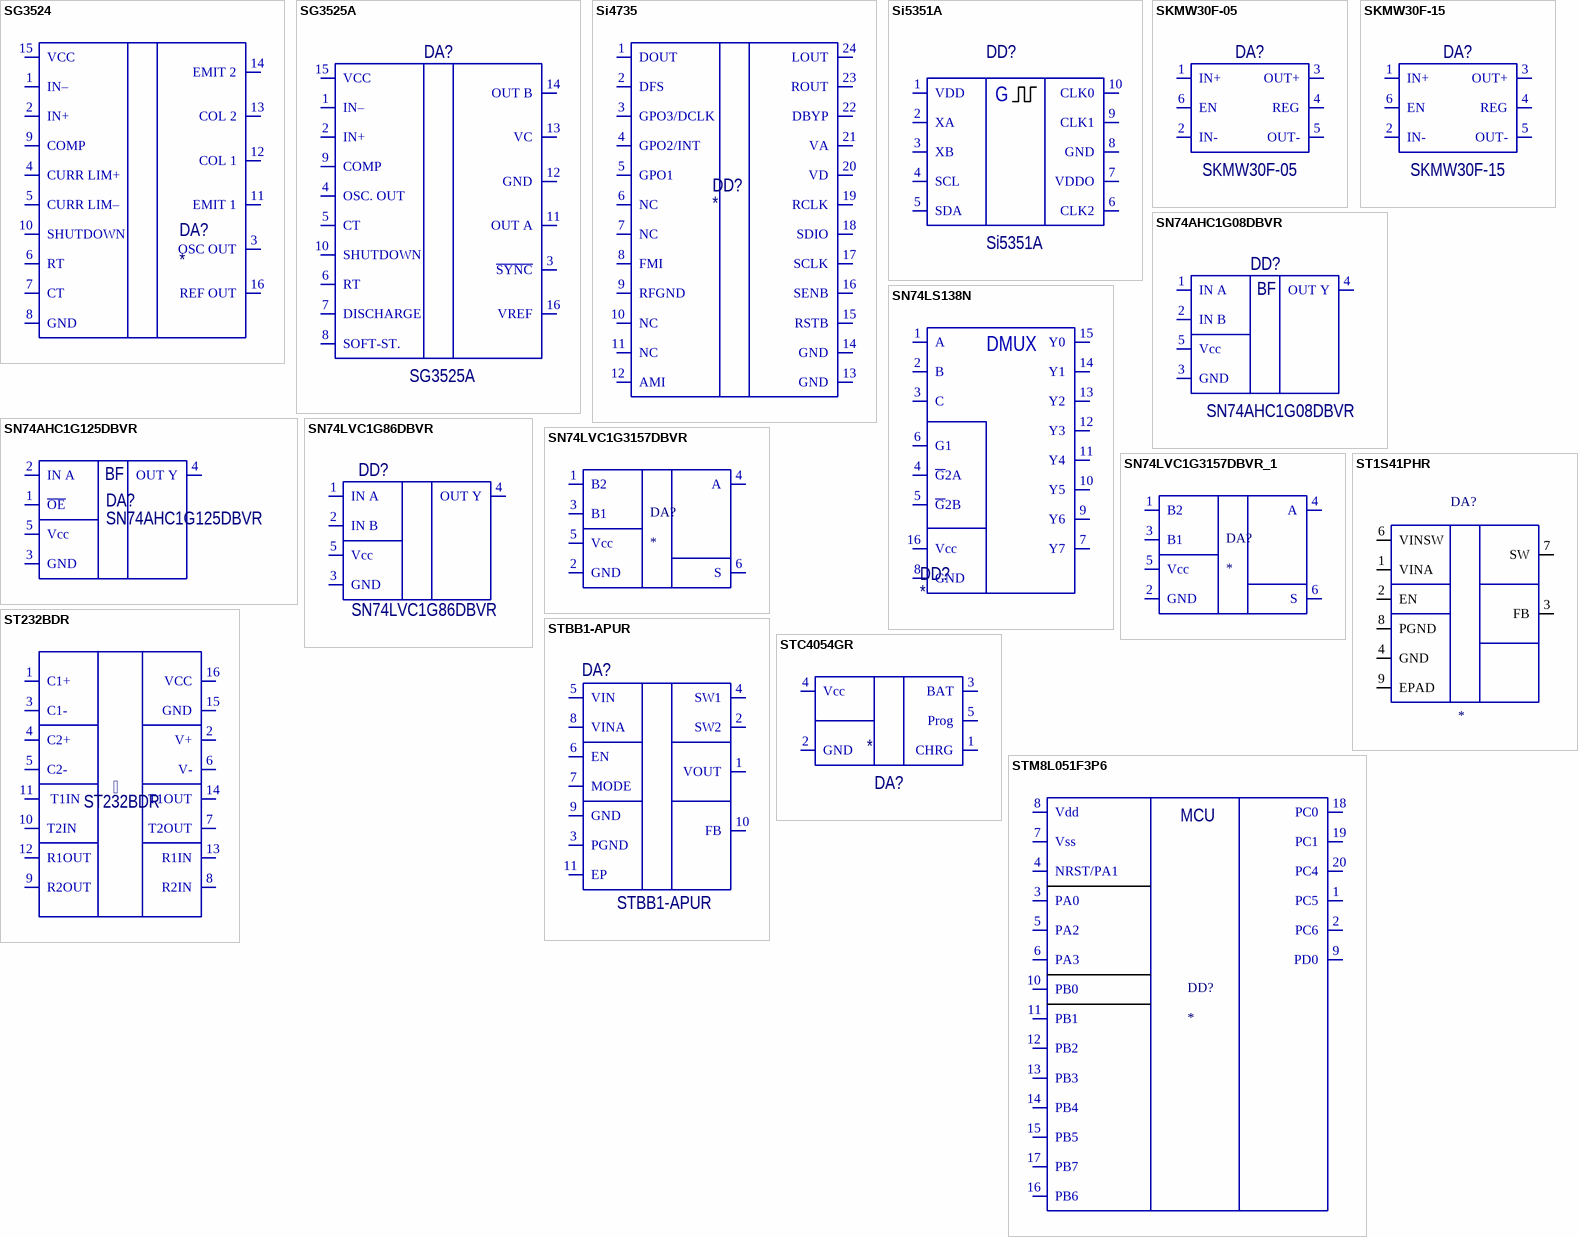
[diagram p13: symbols SG3524 to STM8L051F3P6]

## SG3524
designator DA?
Импульсный регулятор напряжения
footprint SO-16 (SOIC, 16-Leads, Body 9,90x3,90mm, Pitch 1,27mm, IPC Medium Density)
pins: 1 IN–, 2 IN+, 3 OSC OUT, 4 CURR LIM+, 5 CURR LIM–, 6 RT, 7 CT, 8 GND, 9 COMP, 10 SHUTDOWN, 11 EMIT 1, 12 COL 1, 13 COL 2, 14 EMIT 2, 15 VCC, 16 REF OUT

## SG3525A
designator DA?
Импульсный регулятор напряжения
footprint SO-16 (SOIC, 16-Leads, Body 9,90x3,90mm, Pitch 1,27mm, IPC Medium Density)
pins: 1 IN–, 2 IN+, 3 ~{SYNC}, 4 OSC. OUT, 5 CT, 6 RT, 7 DISCHARGE, 8 SOFT-ST., 9 COMP, 10 SHUTDOWN, 11 OUT A, 12 GND, 13 VC, 14 OUT B, 15 VCC, 16 VREF

## Si4735
designator DD?
BROADCAST AM/FM/SW/LW RADIO RECEIVER
footprint SSOP-24 (SOP, 24-Leads, Body 8.65x3.90mm, Pitch 0.64mm, IPC Medium Density)
pins: 1 DOUT, 2 DFS, 3 GPO3/DCLK, 4 GPO2/INT, 5 GPO1, 6 NC, 7 NC, 8 FMI, 9 RFGND, 10 NC, 11 NC, 12 AMI, 13 GND, 14 GND, 15 RSTB, 16 SENB, 17 SCLK, 18 SDIO, 19 RCLK, 20 VD, 21 VA, 22 DBYP, 23 ROUT, 24 LOUT

## Si5351A
designator DD?
HelpURL: https://www.silabs.com/documents/public/data-sheets/Si5351-B.pdf
footprint MSOP-10 (TSSOP, 10-Leads, Body 3,00x3,00mm, Pitch 0,50mm, IPC Medium Density)
pins: 1 VDD, 2 XA, 3 XB, 4 SCL, 5 SDA, 6 CLK2, 7 VDDO, 8 GND, 9 CLK1, 10 CLK0
text: G

## SKMW30F-05
designator DA?
Изолированный DC/DC 30Вт, Uвх=9…36B, Uвых=5В/6А; PartNumber: VDRI30W15
footprint VDRI20_VDRI30 (Миниатюрные изолированные DC/DC преобразователи / для промышленных сфер)
pins: 1 IN+, 2 IN-, 3 OUT+, 4 REG, 5 OUT-, 6 EN

## SKMW30F-15
designator DA?
Изолированный DC/DC 30Вт, Uвх=9…36B, Uвых=15В/2А; PartNumber: VDRI30W15
footprint VDRI20_VDRI30 (Миниатюрные изолированные DC/DC преобразователи / для промышленных сфер)
pins: 1 IN+, 2 IN-, 3 OUT+, 4 REG, 5 OUT-, 6 EN

## SN74AHC1G08DBVR
designator DD?
Логическое И
footprint SOT-23-5 (SOT23, 5-Leads, Body 2,90x2,80mm, Pitch 0,95mm, IPC Medium Density)
pins: 1 IN A, 2 IN B, 3 GND, 4 OUT Y, 5 Vcc
text: BF

## SN74AHC1G125DBVR
designator DA?
footprint SOT-23-5 (SOT23, 5-Leads, Body 2,90x2,80mm, Pitch 0,95mm, IPC Medium Density)
pins: 1 ~{OE}, 2 IN A, 3 GND, 4 OUT Y, 5 Vcc
text: BF

## SN74LS138N
designator DD?
footprint DIP16
pins: 1 A, 2 B, 3 C, 4 ~{G}2A, 5 ~{G}2B, 6 G1, 7 Y7, 8 GND, 9 Y6, 10 Y5, 11 Y4, 12 Y3, 13 Y2, 14 Y1, 15 Y0, 16 Vcc
text: DMUX

## SN74LVC1G86DBVR
designator DD?
исключающее или
footprint sot-23-5 (SOT23, 5-Leads, Body 2,90x2,80mm, Pitch 0,95mm, IPC Medium Density)
pins: 1 IN A, 2 IN B, 3 GND, 4 OUT Y, 5 Vcc

## SN74LVC1G3157DBVR
designator DA?
Аналоговый переключатель, двухпозиционный [SOT-23-6]; Manufacturer_Name: Texas Instruments; Manufacturer_Part_Number: SN74LVC1G3157DBVR; Datasheet Link: http://componentsearchengine.com/Datasheets/1/SN74LVC1G3157DBVR.pdf; Height: 1.45mm; Mouser Part Number: 595-SN74LVC1G3157DBV; Mouser Price/Stock: https://www.mouser.co.uk/ProductDetail/Texas-Instruments/SN74LVC1G3157DBVR?qs=PVVDbbWpW3ID6l2sElWeMw%3D%3D; Arrow Part Number: SN74LVC1G3157DBVR; Arrow Price/Stock: https://www.arrow.com/en/products/sn74lvc1g3157dbvr/texas-instruments?region=nac
footprint SOT-23-6 (SOT23, 6-Leads, Body 1,60x1,60mm, Pitch 0,50mm, IPC Medium Density)
pins: 1 B2, 2 GND, 3 B1, 4 A, 5 Vcc, 6 S

## SN74LVC1G3157DBVR_1
designator DA?
Аналоговый переключатель, двухпозиционный [SOT-23-6]; Manufacturer_Name: Texas Instruments; Manufacturer_Part_Number: SN74LVC1G3157DBVR; Datasheet Link: http://componentsearchengine.com/Datasheets/1/SN74LVC1G3157DBVR.pdf; Height: 1.45mm; Mouser Part Number: 595-SN74LVC1G3157DBV; Mouser Price/Stock: https://www.mouser.co.uk/ProductDetail/Texas-Instruments/SN74LVC1G3157DBVR?qs=PVVDbbWpW3ID6l2sElWeMw%3D%3D; Arrow Part Number: SN74LVC1G3157DBVR; Arrow Price/Stock: https://www.arrow.com/en/products/sn74lvc1g3157dbvr/texas-instruments?region=nac
footprint SOT-23-6 (SOT23, 6-Leads, Body 1,60x1,60mm, Pitch 0,50mm, IPC Medium Density)
pins: 1 B2, 2 GND, 3 B1, 4 A, 5 Vcc, 6 S

## ST1S41PHR
designator DA?
4 A step-down switching regulator; Manufacturer_Name: STMicroelectronics; Manufacturer_Part_Number: ST1S41PHR; Datasheet Link: https://www.st.com/resource/en/datasheet/st1s41.pdf; Height: 1.7mm; Mouser Part Number: 511-ST1S41PHR; Mouser Price/Stock: https://www.mouser.co.uk/ProductDetail/STMicroelectronics/ST1S41PHR?qs=GlLcxsc1hfH42vbX3xy6fg%3D%3D; Arrow Part Number: ST1S41PHR; Arrow Price/Stock: https://www.arrow.com/en/products/st1s41phr/stmicroelectronics?region=nac
footprint HSOIC8
pins: 1 VINA, 2 EN, 3 FB, 4 GND, 6 VINSW, 7 SW, 8 PGND, 9 EPAD

## ST232BDR
designator 
footprint SO-16 (SOIC, 16-Leads, Body 9,90x3,90mm, Pitch 1,27mm, IPC Medium Density)
pins: 1 C1+, 2 V+, 3 C1-, 4 C2+, 5 C2-, 6 V-, 7 T2OUT, 8 R2IN, 9 R2OUT, 10 T2IN, 11  T1IN, 12 R1OUT, 13 R1IN, 14  T1OUT, 15 GND, 16  VCC

## STBB1-APUR
designator DA?
DC/DC CONV, BUCK-BOOST, 1.5MHZ, DFN-10
footprint DFN10 (Footprint not found)
pins: 1 VOUT, 2 SW2, 3 PGND, 4 SW1, 5 VIN, 6 EN, 7 MODE, 8 VINA, 9 GND, 10 FB, 11 EP

## STC4054GR
designator DA?
Контроллер заряда Lion батарей
footprint TSOT23-5L (SOT23, 5-Leads, Body 2.90x2.80mm, Pitch 0.95mm, IPC Medium Density)
pins: 1 CHRG, 2 GND, 3 BAT, 4 Vcc, 5 Prog

## STM8L051F3P6
designator DD?
footprint TSSOP-20 (TSOP, 20-Leads, Body 6,50x4,40mm, Pitch 0,65mm, IPC Medium Density)
pins: 1 PC5, 2 PC6, 3 PA0, 4 NRST/PA1, 5 PA2, 6 PA3, 7 Vss, 8 Vdd, 9 PD0, 10 PB0, 11 PB1, 12 PB2, 13 PB3, 14 PB4, 15 PB5, 16 PB6, 17 PB7, 18 PC0, 19 PC1, 20 PC4
text: MCU

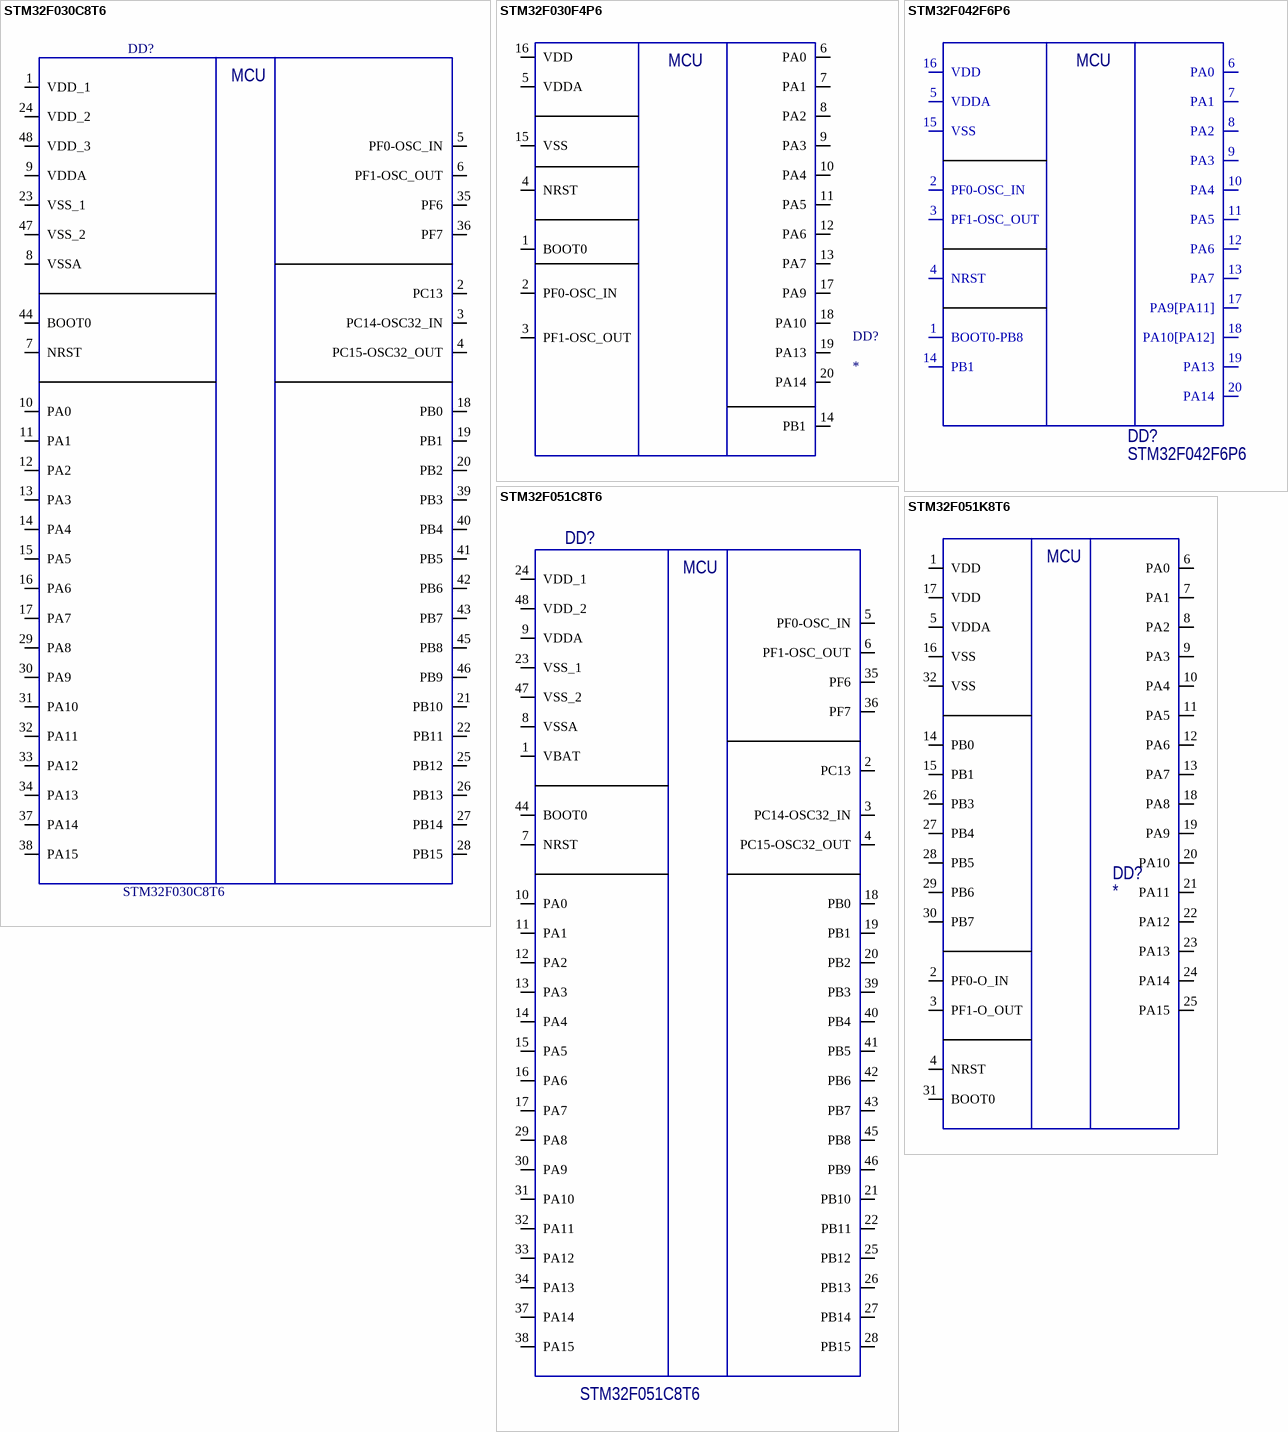
[diagram p14: symbols STM32F030C8T6 to STM32F051K8T6]

## STM32F030C8T6
designator DD?
Manufacturer_Name: STMicroelectronics; Datasheet Link: http://www.st.com/web/en/resource/technical/document/datasheet/DM00088500.pdf; Height: 1.6mm; Manufacturer_Part_Number: STM32F030C8T6; Mouser Part Number: 511-STM32F030C8T6; Mouser Price/Stock: https://www.mouser.co.uk/ProductDetail/STMicroelectronics/STM32F030C8T6?qs=eyrSuY1LhL02NUjnPm0S4A%3D%3D; Arrow Part Number: STM32F030C8T6; Arrow Price/Stock: https://www.arrow.com/en/products/stm32f030c8t6/stmicroelectronics?region=nac
footprint LQFP48 (TSQFP, 48-Leads, Body 7,00x7,00mm, Pitch 0,50mm, IPC Medium Density)
pins: 1 VDD_1, 2 PC13, 3 PC14-OSC32_IN, 4 PC15-OSC32_OUT, 5 PF0-OSC_IN, 6 PF1-OSC_OUT, 7 NRST, 8 VSSA, 9 VDDA, 10 PA0, 11 PA1, 12 PA2, 13 PA3, 14 PA4, 15 PA5, 16 PA6, 17 PA7, 18 PB0, 19 PB1, 20 PB2, 21 PB10, 22 PB11, 23 VSS_1, 24 VDD_2, 25 PB12, 26 PB13, 27 PB14, 28 PB15, 29 PA8, 30 PA9, 31 PA10, 32 PA11, 33 PA12, 34 PA13, 35 PF6, 36 PF7, 37 PA14, 38 PA15, 39 PB3, 40 PB4, 41 PB5, 42 PB6, 43 PB7, 44 BOOT0, 45 PB8, 46 PB9, 47 VSS_2, 48 VDD_3
text: MCU

## STM32F030F4P6
designator DD?
ARM® Cortex®-M0 STM32F0 Microcontroller IC 32-Bit 48MHz 16KB (16K x 8) FLASH; Manufacturer_Name: STMicroelectronics; Manufacturer_Part_Number: STM32F030F4P6; Datasheet Link: http://www.st.com/web/en/resource/technical/document/datasheet/DM00088500.pdf; Height: 1.2mm; Mouser Part Number: 511-STM32F030F4P6; Mouser Price/Stock: https://www.mouser.co.uk/ProductDetail/STMicroelectronics/STM32F030F4P6?qs=eyrSuY1LhL02tVhJ92aI6g%3D%3D; Arrow Part Number: STM32F030F4P6; Arrow Price/Stock: https://www.arrow.com/en/products/stm32f030f4p6/stmicroelectronics
footprint TSSOP-20 (TSOP, 20-Leads, Body 6,50x4,40mm, Pitch 0,65mm, IPC Medium Density)
pins: 1 BOOT0, 2 PF0-OSC_IN, 3 PF1-OSC_OUT, 4 NRST, 5 VDDA, 6 PA0, 7 PA1, 8 PA2, 9 PA3, 10 PA4, 11 PA5, 12 PA6, 13 PA7, 14 PB1, 15 VSS, 16 VDD, 17 PA9, 18 PA10, 19 PA13, 20 PA14
text: MCU

## STM32F042F6P6
designator DD?
footprint TSSOP-20 (TSOP, 20-Leads, Body 6,50x4,40mm, Pitch 0,65mm, IPC Medium Density)
pins: 1 BOOT0-PB8, 2 PF0-OSC_IN, 3 PF1-OSC_OUT, 4 NRST, 5 VDDA, 6 PA0, 7 PA1, 8 PA2, 9 PA3, 10 PA4, 11 PA5, 12 PA6, 13 PA7, 14 PB1, 15 VSS, 16 VDD, 17 PA9[PA11], 18 PA10[PA12], 19 PA13, 20 PA14
text: MCU

## STM32F051C8T6
designator DD?
footprint LQFP48 (TSQFP, 48-Leads, Body 7,00x7,00mm, Pitch 0,50mm, IPC Medium Density)
pins: 1 VBAT, 2 PC13, 3 PC14-OSC32_IN, 4 PC15-OSC32_OUT, 5 PF0-OSC_IN, 6 PF1-OSC_OUT, 7 NRST, 8 VSSA, 9 VDDA, 10 PA0, 11 PA1, 12 PA2, 13 PA3, 14 PA4, 15 PA5, 16 PA6, 17 PA7, 18 PB0, 19 PB1, 20 PB2, 21 PB10, 22 PB11, 23 VSS_1, 24 VDD_1, 25 PB12, 26 PB13, 27 PB14, 28 PB15, 29 PA8, 30 PA9, 31 PA10, 32 PA11, 33 PA12, 34 PA13, 35 PF6, 36 PF7, 37 PA14, 38 PA15, 39 PB3, 40 PB4, 41 PB5, 42 PB6, 43 PB7, 44 BOOT0, 45 PB8, 46 PB9, 47 VSS_2, 48 VDD_2
text: MCU

## STM32F051K8T6
designator DD?
footprint LQFP32 (TQFP, 32-Leads, Body 7.00x7.00mm, Pitch 0.80mm, IPC Medium Density)
pins: 1 VDD, 2 PF0-O_IN, 3 PF1-O_OUT, 4 NRST, 5 VDDA, 6 PA0, 7 PA1, 8 PA2, 9 PA3, 10 PA4, 11 PA5, 12 PA6, 13 PA7, 14 PB0, 15 PB1, 16 VSS, 17 VDD, 18 PA8, 19 PA9, 20 PA10, 21 PA11, 22 PA12, 23 PA13, 24 PA14, 25 PA15, 26 PB3, 27 PB4, 28 PB5, 29 PB6, 30 PB7, 31 BOOT0, 32 VSS
text: MCU

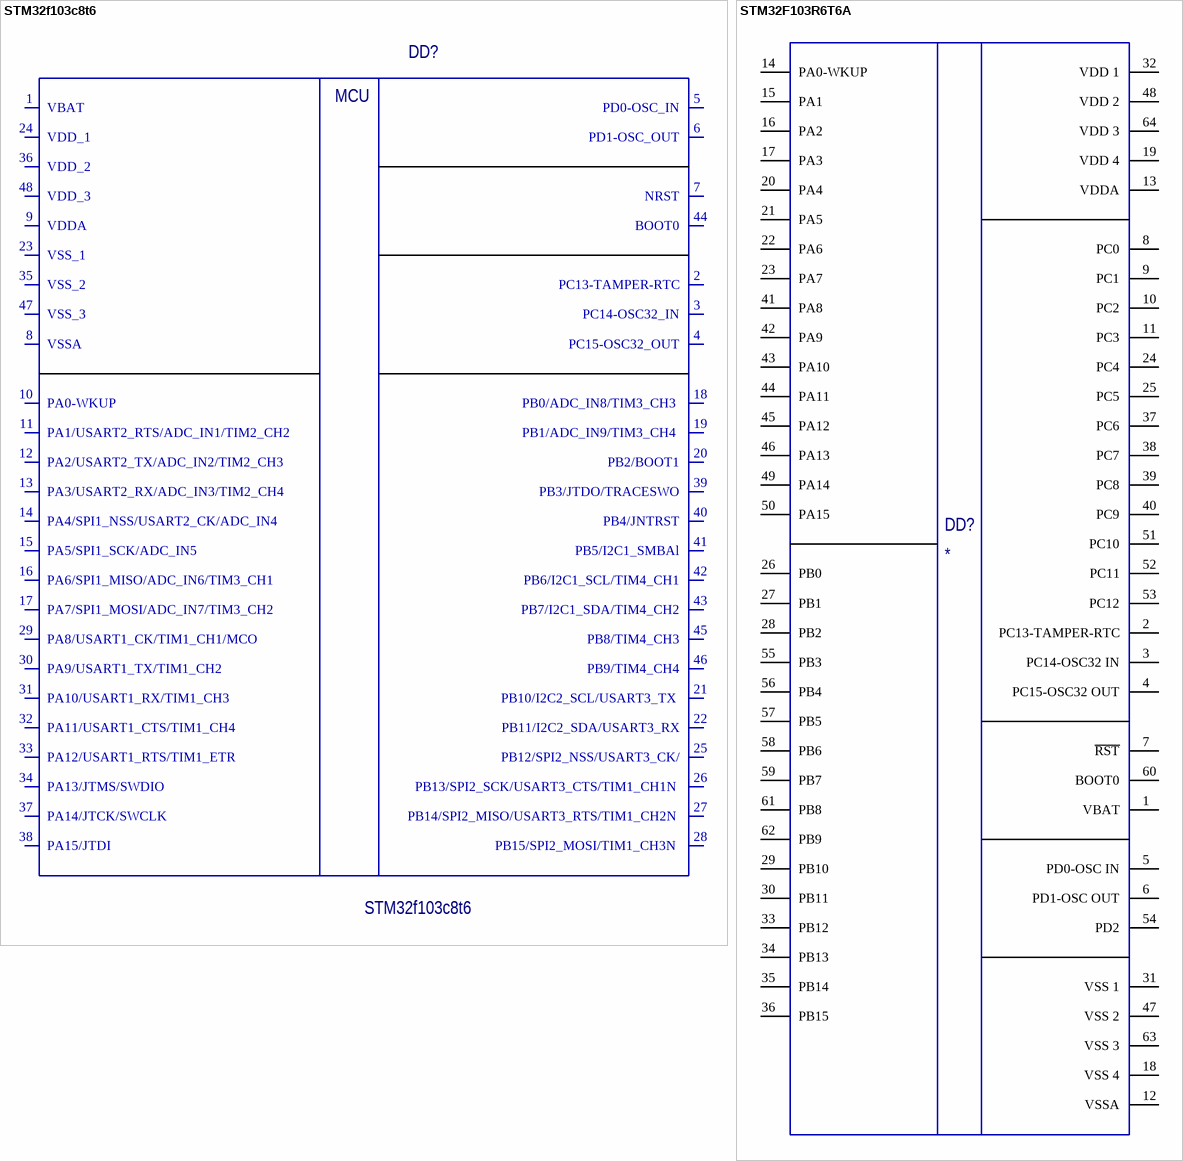
[diagram p15: symbols STM32f103c8t6 to STM32F103R6T6A]

## STM32f103c8t6
designator DD?
footprint LQFP48 (TSQFP, 48-Leads, Body 7,00x7,00mm, Pitch 0,50mm, IPC Medium Density)
pins: 1 VBAT, 2 PC13-TAMPER-RTC, 3 PC14-OSC32_IN, 4 PC15-OSC32_OUT, 5 PD0-OSC_IN, 6 PD1-OSC_OUT, 7 NRST, 8 VSSA, 9 VDDA, 10 PA0-WKUP, 11 PA1/USART2_RTS/ADC_IN1/TIM2_CH2, 12 PA2/USART2_TX/ADC_IN2/TIM2_CH3 , 13 PA3/USART2_RX/ADC_IN3/TIM2_CH4 , 14 PA4/SPI1_NSS/USART2_CK/ADC_IN4 , 15 PA5/SPI1_SCK/ADC_IN5, 16 PA6/SPI1_MISO/ADC_IN6/TIM3_CH1 , 17 PA7/SPI1_MOSI/ADC_IN7/TIM3_CH2, 18 PB0/ADC_IN8/TIM3_CH3 , 19 PB1/ADC_IN9/TIM3_CH4 , 20 PB2/BOOT1, 21 PB10/I2C2_SCL/USART3_TX , 22 PB11/I2C2_SDA/USART3_RX, 23 VSS_1, 24 VDD_1, 25 PB12/SPI2_NSS/USART3_CK/, 26 PB13/SPI2_SCK/USART3_CTS/TIM1_CH1N , 27 PB14/SPI2_MISO/USART3_RTS/TIM1_CH2N , 28 PB15/SPI2_MOSI/TIM1_CH3N , 29 PA8/USART1_CK/TIM1_CH1/MCO , 30 PA9/USART1_TX/TIM1_CH2, 31 PA10/USART1_RX/TIM1_CH3, 32 PA11/USART1_CTS/TIM1_CH4, 33 PA12/USART1_RTS/TIM1_ETR, 34 PA13/JTMS/SWDIO, 35 VSS_2, 36 VDD_2, 37 PA14/JTCK/SWCLK, 38 PA15/JTDI, 39 PB3/JTDO/TRACESWO, 40 PB4/JNTRST, 41 PB5/I2C1_SMBAl, 42 PB6/I2C1_SCL/TIM4_CH1, 43 PB7/I2C1_SDA/TIM4_CH2, 44 BOOT0, 45 PB8/TIM4_CH3, 46 PB9/TIM4_CH4, 47 VSS_3, 48 VDD_3
text: MCU

## STM32F103R6T6A
designator DD?
32-Bit 72MHz 32KB (32K x 8) FLASH 64-LQFP
footprint LQFP64 (TSQFP, 64-Leads, Body 10.00x10.00mm, Pitch 0.50mm, IPC Medium Density)
pins: 1 VBAT (power), 2 PC13-TAMPER-RTC, 3 PC14-OSC32 IN, 4 PC15-OSC32 OUT, 5 PD0-OSC IN, 6 PD1-OSC OUT, 7 ~{RST}, 8 PC0, 9 PC1, 10 PC2, 11 PC3, 12 VSSA (power), 13 VDDA (power), 14 PA0-WKUP, 15 PA1, 16 PA2, 17 PA3, 18 VSS 4 (power), 19 VDD 4 (power), 20 PA4, 21 PA5, 22 PA6, 23 PA7, 24 PC4, 25 PC5, 26 PB0, 27 PB1, 28 PB2, 29 PB10, 30 PB11, 31 VSS 1 (power), 32 VDD 1 (power), 33 PB12, 34 PB13, 35 PB14, 36 PB15, 37 PC6, 38 PC7, 39 PC8, 40 PC9, 41 PA8, 42 PA9, 43 PA10, 44 PA11, 45 PA12, 46 PA13, 47 VSS 2 (power), 48 VDD 2 (power), 49 PA14, 50 PA15, 51 PC10, 52 PC11, 53 PC12, 54 PD2, 55 PB3, 56 PB4, 57 PB5, 58 PB6, 59 PB7, 60 BOOT0, 61 PB8, 62 PB9, 63 VSS 3 (power), 64 VDD 3 (power)

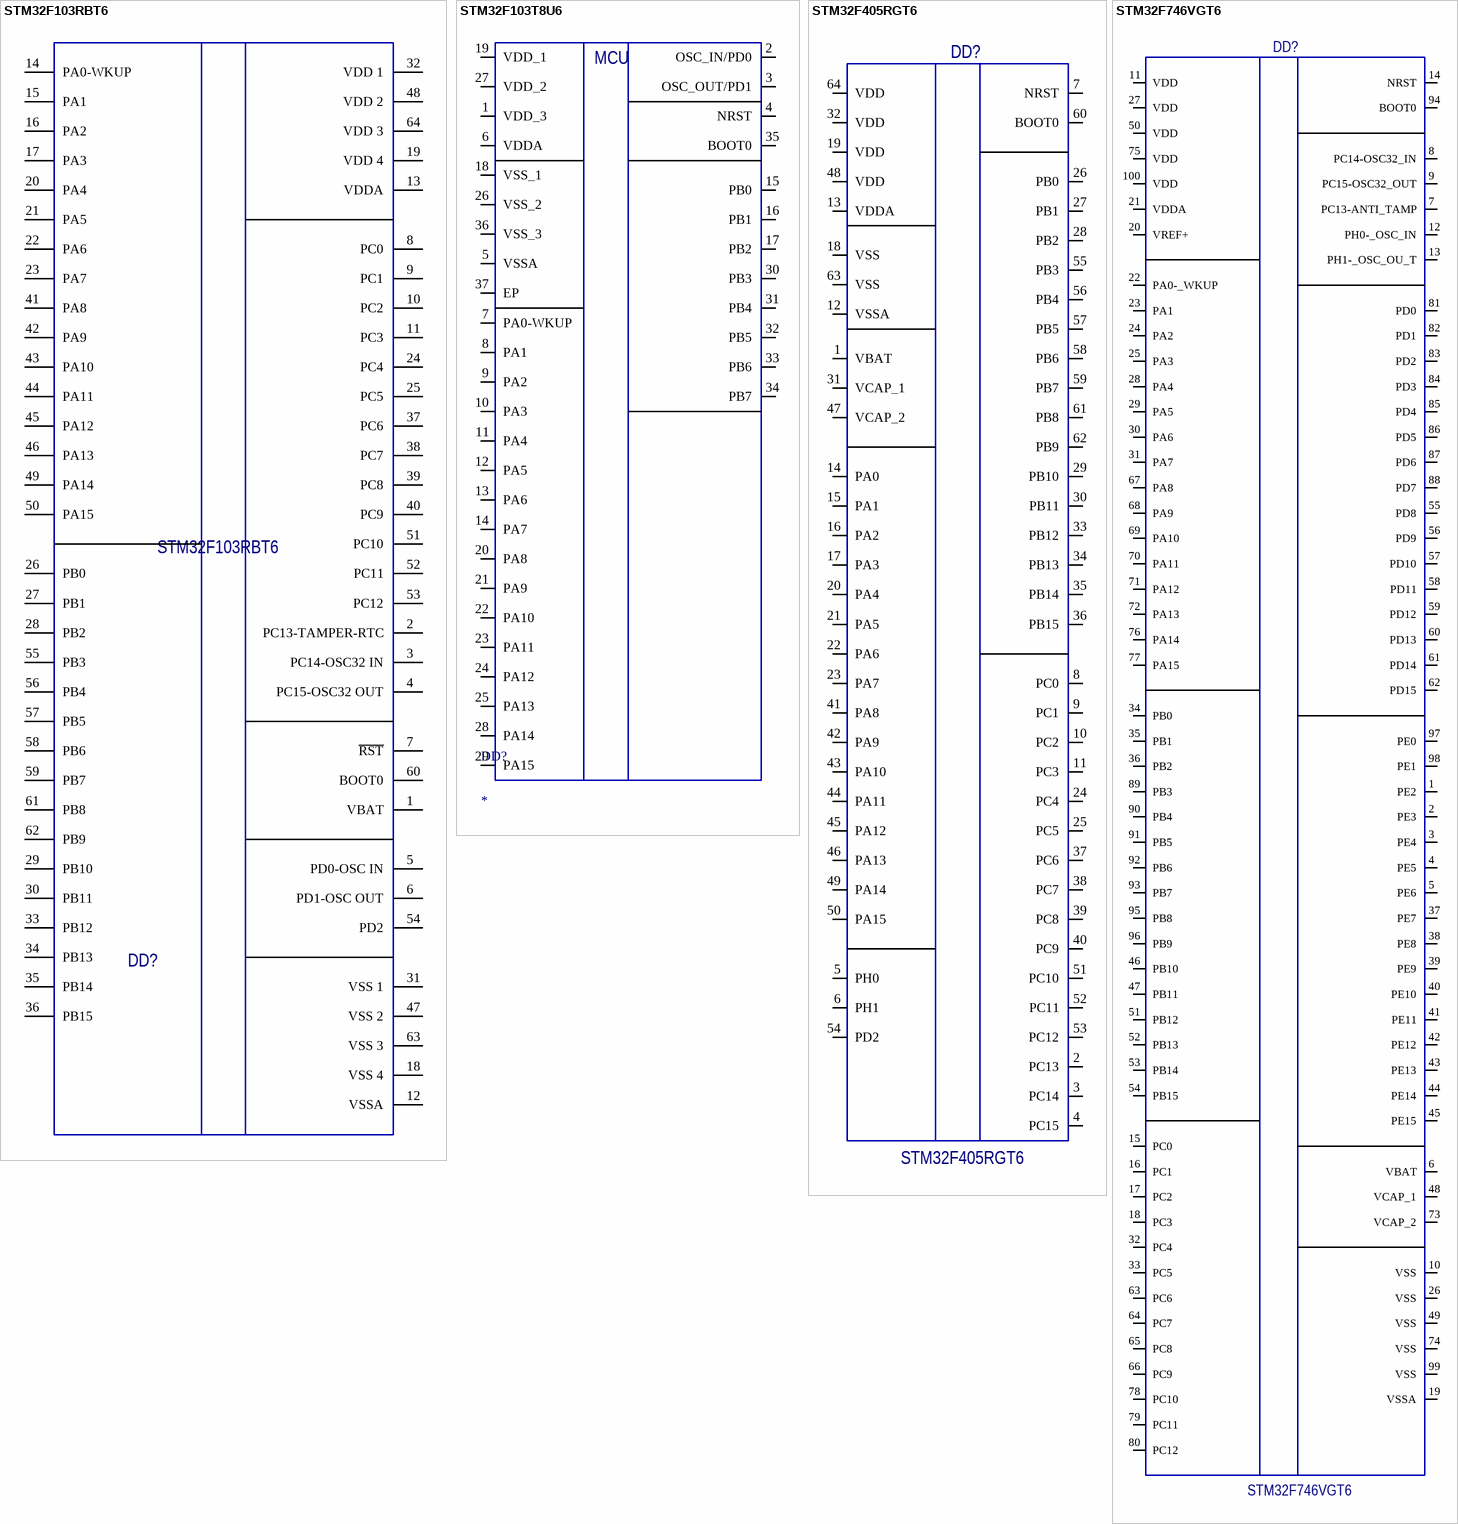
[diagram p16: symbols STM32F103RBT6 to STM32F746VGT6]

## STM32F103RBT6
designator DD?  Part Number: STM32F103RBT6
IC MCU 32BIT 128KB FLASH 64LQFP; Manufacturer: ST Microelectronics; Mfg Package Ident: LQFP64; helpURL: https://upverter.com/upn/revision/179c87d5c3d4f257/; ComponentLink2Description: Datasheet; Temperature: -40°C to +85°C; Package: LQFP64; Supplier 2: Mouser; Supplier 1: Digi-Key; ComponentLink1URL: https://upverter.com/upn/revision/179c87d5c3d4f257/; Supplier Part Number 2: 511-STM32F103RBT6; Supplier Part Number 1: 497-6066-ND; ComponentLink1Description: Upverter; ComponentLink2URL: http://www.st.com/content/ccc/resource/technical/document/datasheet/33/d4/6f/1d/df/0b/4c/6d/CD00161566.pdf/files/CD00161566.pdf/jcr:content/translations/en.CD00161566.pdf; RoHS: TRUE; Mouser Part Number: 511-STM32F103RBT6; Ipc Land Pattern Name: QFP50P1200X1200X160-64; Temperature Range High: +85°C; Digikey Description: IC MCU 32BIT 128KB FLASH 64LQFP; Digikey Part Number: 497-6066-ND; Lead Free: yes; Temperature Range Low: -40°C
footprint lqfp64 (TSQFP, 64-Leads, Body 10.00x10.00mm, Pitch 0.50mm, IPC Medium Density)
pins: 1 VBAT (power), 2 PC13-TAMPER-RTC, 3 PC14-OSC32 IN, 4 PC15-OSC32 OUT, 5 PD0-OSC IN, 6 PD1-OSC OUT, 7 ~{RST}, 8 PC0, 9 PC1, 10 PC2, 11 PC3, 12 VSSA (power), 13 VDDA (power), 14 PA0-WKUP, 15 PA1, 16 PA2, 17 PA3, 18 VSS 4 (power), 19 VDD 4 (power), 20 PA4, 21 PA5, 22 PA6, 23 PA7, 24 PC4, 25 PC5, 26 PB0, 27 PB1, 28 PB2, 29 PB10, 30 PB11, 31 VSS 1 (power), 32 VDD 1 (power), 33 PB12, 34 PB13, 35 PB14, 36 PB15, 37 PC6, 38 PC7, 39 PC8, 40 PC9, 41 PA8, 42 PA9, 43 PA10, 44 PA11, 45 PA12, 46 PA13, 47 VSS 2 (power), 48 VDD 2 (power), 49 PA14, 50 PA15, 51 PC10, 52 PC11, 53 PC12, 54 PD2, 55 PB3, 56 PB4, 57 PB5, 58 PB6, 59 PB7, 60 BOOT0, 61 PB8, 62 PB9, 63 VSS 3 (power), 64 VDD 3 (power)

## STM32F103T8U6
designator DD?
Medium-density performance line ARM-based 32-bit MCU with 64 or 128 KB Flash, USB, CAN, 7 timers, 2 ADCs, 9 communication interfaces; Manufacturer_Name: STMicroelectronics; Manufacturer_Part_Number: STM32F103T8U6; Datasheet Link: http://www.st.com/st-web-ui/static/active/en/resource/technical/document/datasheet/CD00161566.pdf; Height: 1mm; Mouser Part Number: 511-STM32F103T8U6; Mouser Price/Stock: https://www.mouser.co.uk/ProductDetail/STMicroelectronics/STM32F103T8U6?qs=TaOZSEYtRiWNjawIhjImDQ%3D%3D; Arrow Part Number: STM32F103T8U6; Arrow Price/Stock: https://www.arrow.com/en/products/stm32f103t8u6/stmicroelectronics
footprint VFQFPN-36
pins: 1 VDD_3, 2 OSC_IN/PD0, 3 OSC_OUT/PD1, 4 NRST, 5 VSSA, 6 VDDA, 7 PA0-WKUP, 8 PA1, 9 PA2, 10 PA3, 11 PA4, 12 PA5, 13 PA6, 14 PA7, 15 PB0, 16 PB1, 17 PB2, 18 VSS_1, 19 VDD_1, 20 PA8, 21 PA9, 22 PA10, 23 PA11, 24 PA12, 25 PA13, 26 VSS_2, 27 VDD_2, 28 PA14, 29 PA15, 30 PB3, 31 PB4, 32 PB5, 33 PB6, 34 PB7, 35 BOOT0, 36 VSS_3, 37 EP
text: MCU

## STM32F405RGT6
designator DD?
ARM Cortex-M4 32b MCU+FPU
footprint LQFP64 (TSQFP, 64-Leads, Body 10.00x10.00mm, Pitch 0.50mm, IPC Medium Density)
pins: 1 VBAT, 2 PC13, 3 PC14, 4 PC15, 5 PH0, 6 PH1, 7 NRST, 8 PC0, 9 PC1, 10 PC2, 11 PC3, 12 VSSA, 13 VDDA, 14 PA0, 15 PA1, 16 PA2, 17 PA3, 18 VSS, 19 VDD, 20 PA4, 21 PA5, 22 PA6, 23 PA7, 24 PC4, 25 PC5, 26 PB0, 27 PB1, 28 PB2, 29 PB10, 30 PB11, 31 VCAP_1, 32 VDD, 33 PB12, 34 PB13, 35 PB14, 36 PB15, 37 PC6, 38 PC7, 39 PC8, 40 PC9, 41 PA8, 42 PA9, 43 PA10, 44 PA11, 45 PA12, 46 PA13, 47 VCAP_2, 48 VDD, 49 PA14, 50 PA15, 51 PC10, 52 PC11, 53 PC12, 54 PD2, 55 PB3, 56 PB4, 57 PB5, 58 PB6, 59 PB7, 60 BOOT0, 61 PB8, 62 PB9, 63 VSS, 64 VDD

## STM32F746VGT6
designator DD?
Integrated Circuit; Manufacturer_Name: STMicroelectronics; Datasheet Link: https://www.st.com/resource/en/datasheet/stm32f745ie.pdf; Height: 1.6mm; Manufacturer_Part_Number: STM32F746VGT6; Mouser Part Number: 511-STM32F746VGT6; Mouser Price/Stock: https://www.mouser.co.uk/ProductDetail/STMicroelectronics/STM32F746VGT6?qs=E2FFEhwHWtefRi8Hsti7qQ%3D%3D; Arrow Part Number: STM32F746VGT6; Arrow Price/Stock: https://www.arrow.com/en/products/stm32f746vgt6/stmicroelectronics?region=nac
footprint lqfp100
pins: 1 PE2, 2 PE3, 3 PE4, 4 PE5, 5 PE6, 6 VBAT, 7 PC13-ANTI_TAMP, 8 PC14-OSC32_IN, 9 PC15-OSC32_OUT, 10 VSS, 11 VDD, 12 PH0-_OSC_IN, 13 PH1-_OSC_OU_T, 14 NRST, 15 PC0, 16 PC1, 17 PC2, 18 PC3, 19 VSSA, 20 VREF+, 21 VDDA, 22 PA0-_WKUP, 23 PA1, 24 PA2, 25 PA3, 26 VSS, 27 VDD, 28 PA4, 29 PA5, 30 PA6, 31 PA7, 32 PC4, 33 PC5, 34 PB0, 35 PB1, 36 PB2, 37 PE7, 38 PE8, 39 PE9, 40 PE10, 41 PE11, 42 PE12, 43 PE13, 44 PE14, 45 PE15, 46 PB10, 47 PB11, 48 VCAP_1, 49 VSS, 50 VDD, 51 PB12, 52 PB13, 53 PB14, 54 PB15, 55 PD8, 56 PD9, 57 PD10, 58 PD11, 59 PD12, 60 PD13, 61 PD14, 62 PD15, 63 PC6, 64 PC7, 65 PC8, 66 PC9, 67 PA8, 68 PA9, 69 PA10, 70 PA11, 71 PA12, 72 PA13, 73 VCAP_2, 74 VSS, 75 VDD, 76 PA14, 77 PA15, 78 PC10, 79 PC11, 80 PC12, 81 PD0, 82 PD1, 83 PD2, 84 PD3, 85 PD4, 86 PD5, 87 PD6, 88 PD7, 89 PB3, 90 PB4, 91 PB5, 92 PB6, 93 PB7, 94 BOOT0, 95 PB8, 96 PB9, 97 PE0, 98 PE1, 99 VSS, 100 VDD
1 alternate drawing of the same symbol

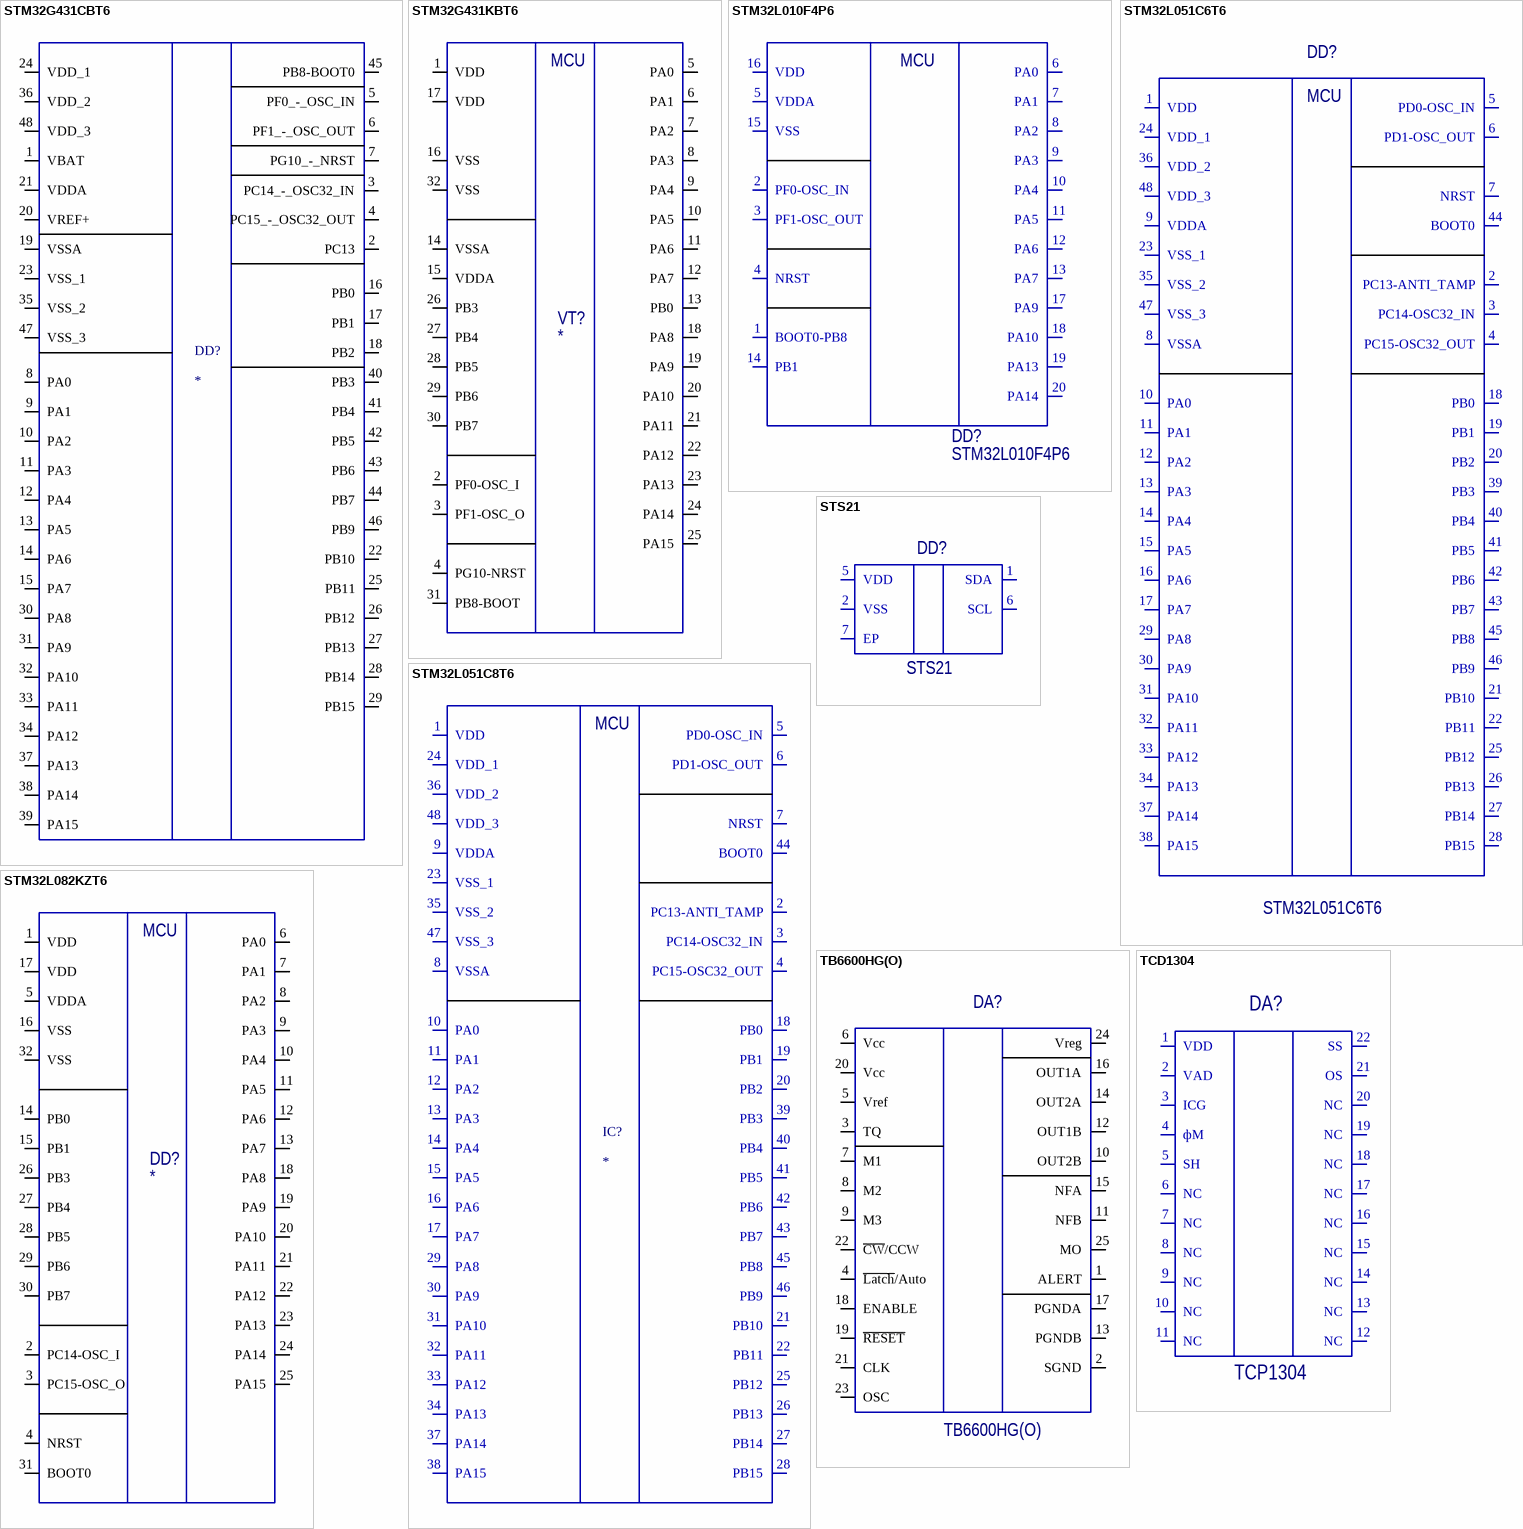
[diagram p17: symbols STM32G431CBT6 to TCD1304]

## STM32G431CBT6
designator DD?
MCU, 32BIT, 170MHZ, LQFP-48;; Manufacturer_Name: STMicroelectronics; Manufacturer_Part_Number: STM32G431CBT6; Datasheet Link: https://www.st.com/resource/en/datasheet/stm32g431cb.pdf; Height: 1.6mm; Mouser Part Number: 511-STM32G431CBT6; Mouser Price/Stock: https://www.mouser.co.uk/ProductDetail/STMicroelectronics/STM32G431CBT6?qs=T3oQrply3y8OocyGDXq5wg%3D%3D; Arrow Part Number: STM32G431CBT6; Arrow Price/Stock: https://www.arrow.com/en/products/stm32g431cbt6/stmicroelectronics?region=nac
footprint LQFP48 (TSQFP, 48-Leads, Body 7,00x7,00mm, Pitch 0,50mm, IPC Medium Density)
pins: 1 VBAT, 2 PC13, 3 PC14_-_OSC32_IN, 4 PC15_-_OSC32_OUT, 5 PF0_-_OSC_IN, 6 PF1_-_OSC_OUT, 7 PG10_-_NRST, 8 PA0, 9 PA1, 10 PA2, 11 PA3, 12 PA4, 13 PA5, 14 PA6, 15 PA7, 16 PB0, 17 PB1, 18 PB2, 19 VSSA, 20 VREF+, 21 VDDA, 22 PB10, 23 VSS_1, 24 VDD_1, 25 PB11, 26 PB12, 27 PB13, 28 PB14, 29 PB15, 30 PA8, 31 PA9, 32 PA10, 33 PA11, 34 PA12, 35 VSS_2, 36 VDD_2, 37 PA13, 38 PA14, 39 PA15, 40 PB3, 41 PB4, 42 PB5, 43 PB6, 44 PB7, 45 PB8-BOOT0, 46 PB9, 47 VSS_3, 48 VDD_3

## STM32G431KBT6
designator VT?
footprint LQFP32 (TQFP, 32-Leads, Body 7.00x7.00mm, Pitch 0.80mm, IPC Medium Density)
pins: 1 VDD, 2 PF0-OSC_I, 3 PF1-OSC_O, 4 PG10-NRST, 5 PA0, 6 PA1, 7 PA2, 8 PA3, 9 PA4, 10 PA5, 11 PA6, 12 PA7, 13 PB0, 14 VSSA, 15 VDDA, 16 VSS, 17 VDD, 18 PA8, 19 PA9, 20 PA10, 21 PA11, 22 PA12, 23 PA13, 24 PA14, 25 PA15, 26 PB3, 27 PB4, 28 PB5, 29 PB6, 30 PB7, 31 PB8-BOOT, 32 VSS
text: MCU

## STM32L010F4P6
designator DD?
footprint TSSOP-20 (TSOP, 20-Leads, Body 6,50x4,40mm, Pitch 0,65mm, IPC Medium Density)
pins: 1 BOOT0-PB8, 2 PF0-OSC_IN, 3 PF1-OSC_OUT, 4 NRST, 5 VDDA, 6 PA0, 7 PA1, 8 PA2, 9 PA3, 10 PA4, 11 PA5, 12 PA6, 13 PA7, 14 PB1, 15 VSS, 16 VDD, 17 PA9, 18 PA10, 19 PA13, 20 PA14
text: MCU

## STM32L051C6T6
designator DD?
footprint LQFP48 (TSQFP, 48-Leads, Body 7,00x7,00mm, Pitch 0,50mm, IPC Medium Density)
pins: 1 VDD, 2 PC13-ANTI_TAMP, 3 PC14-OSC32_IN, 4 PC15-OSC32_OUT, 5 PD0-OSC_IN, 6 PD1-OSC_OUT, 7 NRST, 8 VSSA, 9 VDDA, 10 PA0, 11 PA1, 12 PA2, 13 PA3, 14 PA4, 15 PA5, 16 PA6, 17 PA7, 18 PB0, 19 PB1, 20 PB2, 21 PB10, 22 PB11, 23 VSS_1, 24 VDD_1, 25 PB12, 26 PB13, 27 PB14, 28 PB15, 29 PA8, 30 PA9, 31 PA10, 32 PA11, 33 PA12, 34 PA13, 35 VSS_2, 36 VDD_2, 37 PA14, 38 PA15, 39 PB3, 40 PB4, 41 PB5, 42 PB6, 43 PB7, 44 BOOT0, 45 PB8, 46 PB9, 47 VSS_3, 48 VDD_3
text: MCU

## STM32L051C8T6
designator IC?
Integrated Circuit; Manufacturer_Name: STMicroelectronics; Manufacturer_Part_Number: STM32L051C8T6; Datasheet Link: https://www.st.com/resource/en/datasheet/stm32l051c6.pdf; Height: 1.6mm; Mouser Part Number: 511-STM32L051C8T6; Mouser Price/Stock: https://www.mouser.co.uk/ProductDetail/STMicroelectronics/STM32L051C8T6?qs=s5SkPsIz10%2FuINiB6fFsBg%3D%3D; Arrow Part Number: STM32L051C8T6; Arrow Price/Stock: https://www.arrow.com/en/products/stm32l051c8t6/stmicroelectronics
footprint LQFP48 (TSQFP, 48-Leads, Body 7,00x7,00mm, Pitch 0,50mm, IPC Medium Density)
pins: 1 VDD, 2 PC13-ANTI_TAMP, 3 PC14-OSC32_IN, 4 PC15-OSC32_OUT, 5 PD0-OSC_IN, 6 PD1-OSC_OUT, 7 NRST, 8 VSSA, 9 VDDA, 10 PA0, 11 PA1, 12 PA2, 13 PA3, 14 PA4, 15 PA5, 16 PA6, 17 PA7, 18 PB0, 19 PB1, 20 PB2, 21 PB10, 22 PB11, 23 VSS_1, 24 VDD_1, 25 PB12, 26 PB13, 27 PB14, 28 PB15, 29 PA8, 30 PA9, 31 PA10, 32 PA11, 33 PA12, 34 PA13, 35 VSS_2, 36 VDD_2, 37 PA14, 38 PA15, 39 PB3, 40 PB4, 41 PB5, 42 PB6, 43 PB7, 44 BOOT0, 45 PB8, 46 PB9, 47 VSS_3, 48 VDD_3
text: MCU

## STM32L082KZT6
designator DD?
ComponentLink1Description: Ds; ComponentLink1URL: http://www.farnell.com/datasheets/2602784.pdf
footprint LQFP32 (TQFP, 32-Leads, Body 7.00x7.00mm, Pitch 0.80mm, IPC Medium Density)
pins: 1 VDD, 2 PС14-OSC_I, 3 PС15-OSC_O, 4 NRST, 5 VDDA, 6 PA0, 7 PA1, 8 PA2, 9 PA3, 10 PA4, 11 PA5, 12 PA6, 13 PA7, 14 PB0, 15 PB1, 16 VSS, 17 VDD, 18 PA8, 19 PA9, 20 PA10, 21 PA11, 22 PA12, 23 PA13, 24 PA14, 25 PA15, 26 PB3, 27 PB4, 28 PB5, 29 PB6, 30 PB7, 31 BOOT0, 32 VSS
text: MCU

## STS21
designator DD?
footprint DFN-6 (SON, 6-Leads, Body 3.00x3.00mm, Pitch 1.00mm, Thermal Pad 2.40x1.50mm, IPC Medium Density)
pins: 1 SDA, 2 VSS, 5 VDD, 6 SCL, 7 EP

## TB6600HG(O)
designator DA?
IC MTR DRVR BIPOLAR 8-42V 25HZIP; Manufacturer: Toshiba; Number Of Outputs: 4; Output Current: 4.5A; Switching Frequency: 200kHz; Max Power Dissipation: 3.2W; Motor Type: Stepper; Nominal Supply Current: 1.8-4.2mA; Standoff Height: 2.67mm; Max Supply Voltage: 42V; Min Supply Voltage: 8V; Device Class L1: Integrated Circuits (ICs); Digikey Description: IC MTR DRVR BIPOLAR 8-42V 25HZIP; ComponentLink2Description: Datasheet; Package: HZIP25-P-1.00F; RoHS: TRUE; Manufacturer Part Number: TB6600HG(O); Temperature Range Low: -30°C; Device Class L2: Power Management ICs; ComponentLink2URL: https://toshiba.semicon-storage.com/info/docget.jsp?did=14683&prodName=TB6600HG; Category: IC; Octopart: https://octopart.com/tb6600hg%28o%29-toshiba-24612481; Temperature Range High: +85°C; Temperature: -30°C to +85°C; Height: 19.87mm; Mouser Description: Motor / Motion / Ignition Controllers & Drivers 2-phase stepping motor Drvr 50V; Automotive: No; Lead Free: Yes; Device Class L3: Motor Drivers; Manufacturer 1: Toshiba; Manufacturer Part Number 1: TB6600HG(O)
footprint HZIP25-P-1_00F
pins: 1 ALERT, 2 SGND, 3 TQ, 4 ~{Latch}/Auto, 5 Vref, 6 Vcc, 7 M1, 8 M2, 9 M3, 10 OUT2B, 11 NFB, 12 OUT1B, 13 PGNDB, 14 OUT2A, 15 NFA, 16 OUT1A, 17 PGNDA, 18 ENABLE, 19 ~{RESET}, 20 Vcc, 21 CLK, 22 ~{CW}/CCW, 23 OSC, 24 Vreg, 25 MO

## TCD1304
designator DA?, comment TCP1304
footprint TCD1304
pins: 1 VDD, 2 VAD, 3 ICG, 4 фM, 5 SH, 6 NC, 7 NC, 8 NC, 9 NC, 10 NC, 11 NC, 12 NC, 13 NC, 14 NC, 15 NC, 16 NC, 17 NC, 18 NC, 19 NC, 20 NC, 21 OS, 22 SS

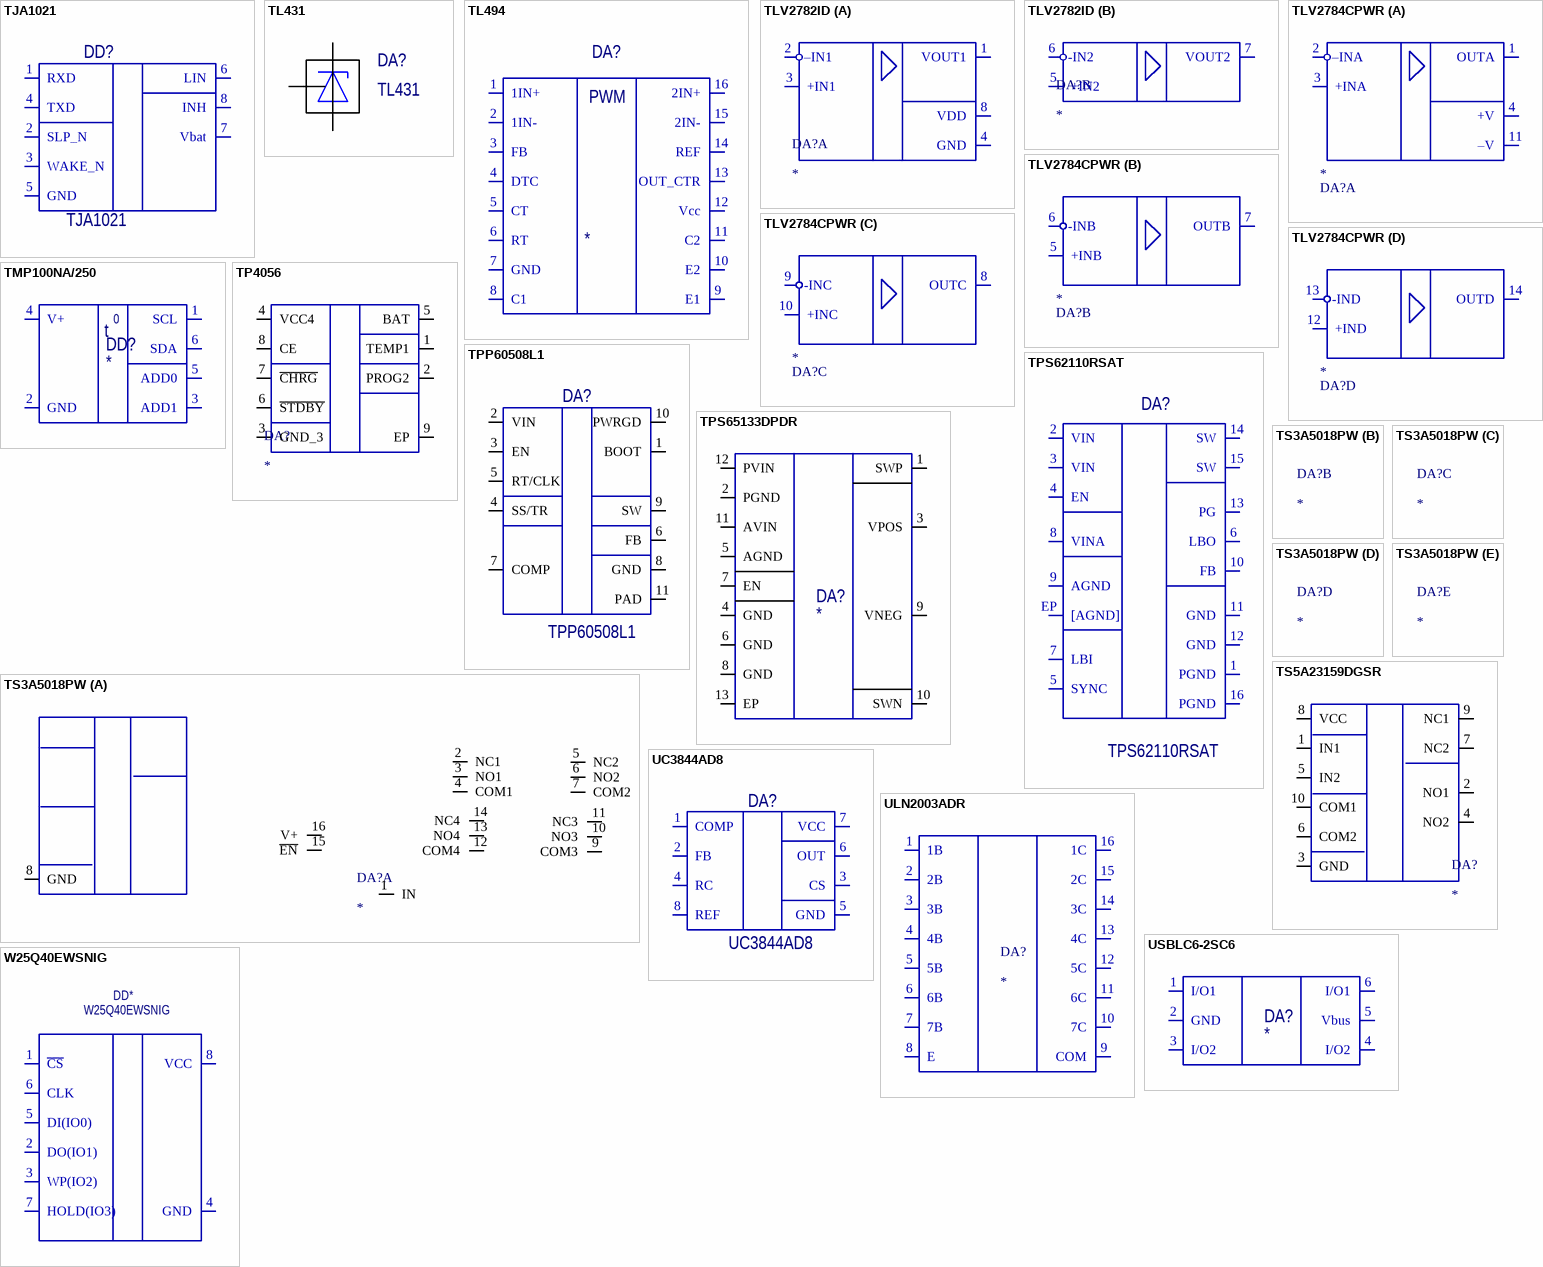
[diagram p18: symbols TJA1021 to W25Q40EWSNIG]

## TJA1021
designator DD?
footprint SO-8 (SOIC, 8-Leads, Body 4,90x3,90mm, Pitch 1,27mm, IPC Medium Density)
pins: 1 RXD, 2 SLP_N, 3 WAKE_N, 4 TXD, 5 GND, 6 LIN, 7 Vbat, 8 INH

## TL431
designator DA?
footprint SOT23 (SOT23, 3-Leads, Body 2,90x2,45mm, Pitch 0,95mm, IPC Medium Density)
pins: 1 C, 2 REF, 3 A